# Altium schematic symbol library conn_terminalB.SchLib: 523 symbols (part 1 of 4)
Pins are listed as number, name and electrical type; pins without a type are passive.

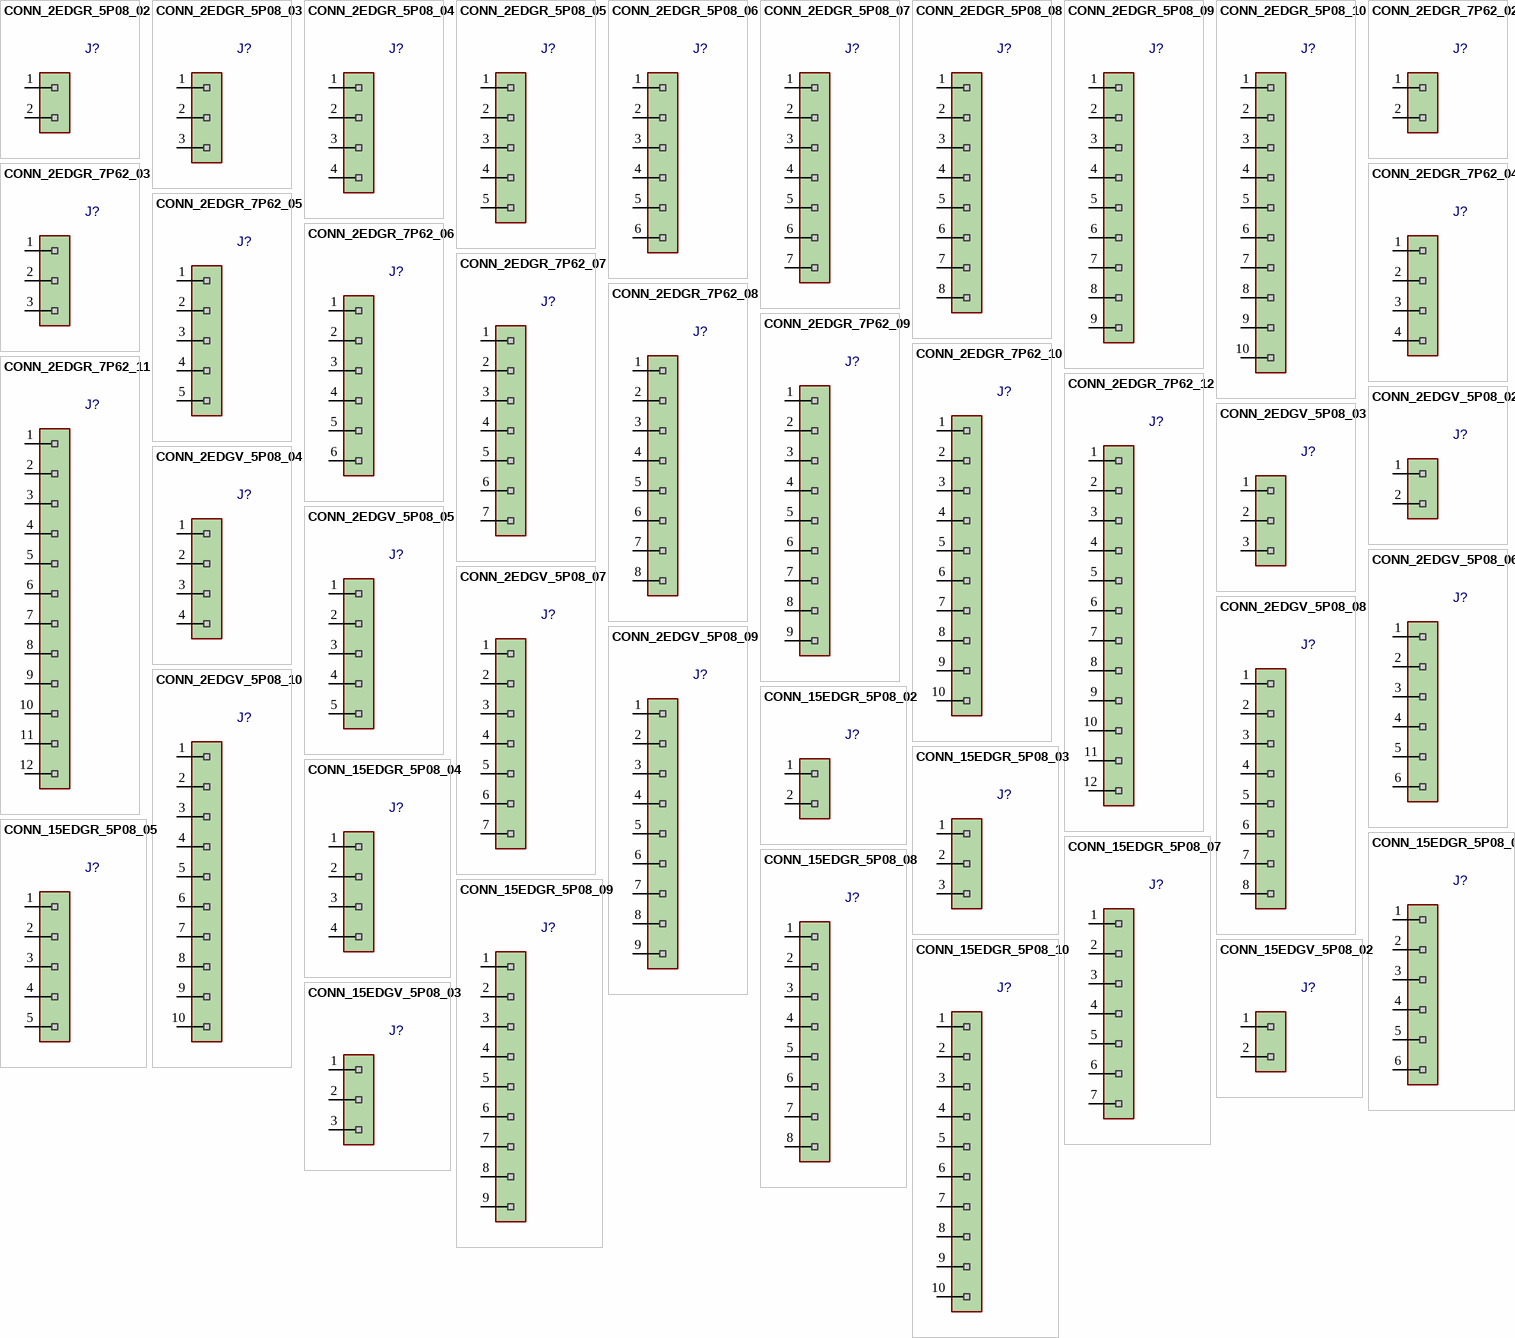
[diagram p0: symbols CONN_2EDGR_5P08_02 to CONN_15EDGV_5P08_03]

## CONN_2EDGR_5P08_02
designator J?, comment 2EDGR_5P08_02  (value not drawn)
Terminal Block Pluggable, Pitch 5.08mm, H 8.6mm, Horizental; MANF: DEGSON; MANF_P#: 2EDGR-5.0-02P, MSTB 2,5/ 2-G-5,08, mating 2EDGK; PARAM2: 300v, -40~105°C; PARAM: 15A; VALUE: 2EDGR_5P08_02; Mount Type: THT; Type: Conn.
footprint 2EDGR_5P08_02 (Terminal Plug, pitch 5.08mm, PHOENIX MSTB 2,5/ x-G-5,08)
footprint 2EDGR_5P08_02_ASSY (Terminal Plug, pitch 5.08mm, PHOENIX MSTB 2,5/ x-G-5,08)
pins: 1, 2

## CONN_2EDGR_5P08_03
designator J?, comment 2EDGR_5P08_03  (value not drawn)
Terminal Block Pluggable, Pitch 5.08mm, H 8.6mm, Horizental; MANF: DEGSON; MANF_P#: 2EDGR-5.0-03P, MSTB 2,5/ 3-G-5,08, mating 2EDGK; PARAM2: 300v, -40~105°C; PARAM: 15A; VALUE: 2EDGR_5P08_03; Mount Type: THT; Type: Conn.
footprint 2EDGR_5P08_03 (Terminal Plug, pitch 5.08mm, PHOENIX MSTB 2,5/ x-G-5,08)
footprint 2EDGR_5P08_03_ASSY (Terminal Plug, pitch 5.08mm, PHOENIX MSTB 2,5/ x-G-5,08)
pins: 1, 2, 3

## CONN_2EDGR_5P08_04
designator J?, comment 2EDGR_5P08_04  (value not drawn)
Terminal Block Pluggable, Pitch 5.08mm, H 8.6mm, Horizental; MANF: DEGSON; MANF_P#: 2EDGR-5.0-04P, MSTB 2,5/ 4-G-5,08, mating 2EDGK; PARAM2: 300v, -40~105°C; PARAM: 15A; VALUE: 2EDGR_5P08_04; Mount Type: THT; Type: Conn.
footprint 2EDGR_5P08_04 (Terminal Plug, pitch 5.08mm, PHOENIX MSTB 2,5/ x-G-5,08)
footprint 2EDGR_5P08_04_ASSY (Terminal Plug, pitch 5.08mm, PHOENIX MSTB 2,5/ x-G-5,08)
pins: 1, 2, 3, 4

## CONN_2EDGR_5P08_05
designator J?, comment 2EDGR_5P08_05  (value not drawn)
Terminal Block Pluggable, Pitch 5.08mm, H 8.6mm, Horizental; MANF: DEGSON; MANF_P#: 2EDGR-5.0-05P, MSTB 2,5/ 5-G-5,08, mating 2EDGK; PARAM2: 300v, -40~105°C; PARAM: 15A; VALUE: 2EDGR_5P08_05; Mount Type: THT; Type: Conn.
footprint 2EDGR_5P08_05 (Terminal Plug, pitch 5.08mm, PHOENIX MSTB 2,5/ x-G-5,08)
footprint 2EDGR_5P08_05_ASSY (Terminal Plug, pitch 5.08mm, PHOENIX MSTB 2,5/ x-G-5,08)
pins: 1, 2, 3, 4, 5

## CONN_2EDGR_5P08_06
designator J?, comment 2EDGR_5P08_06  (value not drawn)
Terminal Block Pluggable, Pitch 5.08mm, H 8.6mm, Horizental; MANF: DEGSON; MANF_P#: 2EDGR-5.0-06P, MSTB 2,5/ 6-G-5,08, mating 2EDGK; PARAM2: 300v, -40~105°C; PARAM: 15A; VALUE: 2EDGR_5P08_06; Mount Type: THT; Type: Conn.
footprint 2EDGR_5P08_06 (Terminal Plug, pitch 5.08mm, PHOENIX MSTB 2,5/ x-G-5,08)
footprint 2EDGR_5P08_06_ASSY (Terminal Plug, pitch 5.08mm, PHOENIX MSTB 2,5/ x-G-5,08)
pins: 1, 2, 3, 4, 5, 6

## CONN_2EDGR_5P08_07
designator J?, comment 2EDGR_5P08_07  (value not drawn)
Terminal Block Pluggable, Pitch 5.08mm, H 8.6mm, Horizental; MANF: DEGSON; MANF_P#: 2EDGR-5.0-07P, MSTB 2,5/ 7-G-5,08, mating 2EDGK; PARAM2: 300v, -40~105°C; PARAM: 15A; VALUE: 2EDGR_5P08_07; Mount Type: THT; Type: Conn.
footprint 2EDGR_5P08_07 (Terminal Plug, pitch 5.08mm, PHOENIX MSTB 2,5/ x-G-5,08)
footprint 2EDGR_5P08_07_ASSY (Terminal Plug, pitch 5.08mm, PHOENIX MSTB 2,5/ x-G-5,08)
pins: 1, 2, 3, 4, 5, 6, 7

## CONN_2EDGR_5P08_08
designator J?, comment 2EDGR_5P08_08  (value not drawn)
Terminal Block Pluggable, Pitch 5.08mm, H 8.6mm, Horizental; MANF: DEGSON; MANF_P#: 2EDGR-5.0-08P, MSTB 2,5/ 8-G-5,08, mating 2EDGK; PARAM2: 300v, -40~105°C; PARAM: 15A; VALUE: 2EDGR_5P08_08; Mount Type: THT; Type: Conn.
footprint 2EDGR_5P08_08 (Terminal Plug, pitch 5.08mm, PHOENIX MSTB 2,5/ x-G-5,08)
footprint 2EDGR_5P08_08_ASSY (Terminal Plug, pitch 5.08mm, PHOENIX MSTB 2,5/ x-G-5,08)
pins: 1, 2, 3, 4, 5, 6, 7, 8

## CONN_2EDGR_5P08_09
designator J?, comment 2EDGR_5P08_09  (value not drawn)
Terminal Block Pluggable, Pitch 5.08mm, H 8.6mm, Horizental; MANF: DEGSON; MANF_P#: 2EDGR-5.0-09P, MSTB 2,5/ 9-G-5,08, mating 2EDGK; PARAM2: 300v, -40~105°C; PARAM: 15A; VALUE: 2EDGR_5P08_09; Mount Type: THT; Type: Conn.
footprint 2EDGR_5P08_09 (Terminal Plug, pitch 5.08mm, PHOENIX MSTB 2,5/ x-G-5,08)
footprint 2EDGR_5P08_09_ASSY (Terminal Plug, pitch 5.08mm, PHOENIX MSTB 2,5/ x-G-5,08)
pins: 1, 2, 3, 4, 5, 6, 7, 8, 9

## CONN_2EDGR_5P08_10
designator J?, comment 2EDGR_5P08_10  (value not drawn)
Terminal Block Pluggable, Pitch 5.08mm, H 8.6mm, Horizental; MANF: DEGSON; MANF_P#: 2EDGR-5.0-10P, MSTB 2,5/ 10-G-5,08, mating 2EDGK; PARAM2: 300v, -40~105°C; PARAM: 15A; VALUE: 2EDGR_5P08_10; Mount Type: THT; Type: Conn.
footprint 2EDGR_5P08_10 (Terminal Plug, pitch 5.08mm, PHOENIX MSTB 2,5/ x-G-5,08)
footprint 2EDGR_5P08_10_ASSY (Terminal Plug, pitch 5.08mm, PHOENIX MSTB 2,5/ x-G-5,08)
pins: 1, 2, 3, 4, 5, 6, 7, 8, 9, 10

## CONN_2EDGR_7P62_02
designator J?, comment 2EDGR_7P62_02  (value not drawn)
Terminal Block Pluggable, Pitch 7.62mm, H 8.6mm; MANF: DEGSON; MANF_P#: 2EDGR-7.62-02P, GMSTB 2,5/ 2-G-7,62, mating 2EDGK; PARAM2: 300v, -40~105°C; PARAM: 15A; VALUE: 2EDGR_7P62_02; Mount Type: THT; Type: Conn.
footprint 2EDGR_7P62_02 (Terminal B Plug. , pitch 7.62mm, H 8.6mm, PHOENIX GMSTB 2,5/x-G-7,62)
footprint 2EDGR_7P62_02_ASSY (Terminal B Plug. , pitch 7.62mm, H 8.6mm, PHOENIX GMSTB 2,5/x-G-7,62)
pins: 1, 2

## CONN_2EDGR_7P62_03
designator J?, comment 2EDGR_7P62_03  (value not drawn)
Terminal Block Pluggable, Pitch 7.62mm, H 8.6mm; MANF: DEGSON; MANF_P#: 2EDGR-7.62-03P, GMSTB 2,5/ 3-G-7,62, mating 2EDGK; PARAM2: 300v, -40~105°C; PARAM: 15A; VALUE: 2EDGR_7P62_03; Mount Type: THT; Type: Conn.
footprint 2EDGR_7P62_03 (Terminal B Plug. , pitch 7.62mm, H 8.6mm, PHOENIX GMSTB 2,5/x-G-7,62)
footprint 2EDGR_7P62_03_ASSY (Terminal B Plug. , pitch 7.62mm, H 8.6mm, PHOENIX GMSTB 2,5/x-G-7,62)
pins: 1, 2, 3

## CONN_2EDGR_7P62_04
designator J?, comment 2EDGR_7P62_04  (value not drawn)
Terminal Block Pluggable, Pitch 7.62mm, H 8.6mm; MANF: DEGSON; MANF_P#: 2EDGR-7.62-04P, GMSTB 2,5/ 4-G-7,62, mating 2EDGK; PARAM2: 300v, -40~105°C; PARAM: 15A; VALUE: 2EDGR_7P62_04; Mount Type: THT; Type: Conn.
footprint 2EDGR_7P62_04 (Terminal B Plug. , pitch 7.62mm, H 8.6mm, PHOENIX GMSTB 2,5/x-G-7,62)
footprint 2EDGR_7P62_04_ASSY (Terminal B Plug. , pitch 7.62mm, H 8.6mm, PHOENIX GMSTB 2,5/x-G-7,62)
pins: 1, 2, 3, 4

## CONN_2EDGR_7P62_05
designator J?, comment 2EDGR_7P62_05  (value not drawn)
Terminal Block Pluggable, Pitch 7.62mm, H 8.6mm; MANF: DEGSON; MANF_P#: 2EDGR-7.62-05P, GMSTB 2,5/ 5-G-7,62, mating 2EDGK; PARAM2: 300v, -40~105°C; PARAM: 15A; VALUE: 2EDGR_7P62_05; Mount Type: THT; Type: Conn.
footprint 2EDGR_7P62_05 (Terminal B Plug. , pitch 7.62mm, H 8.6mm, PHOENIX GMSTB 2,5/x-G-7,62)
footprint 2EDGR_7P62_05_ASSY (Terminal B Plug. , pitch 7.62mm, H 8.6mm, PHOENIX GMSTB 2,5/x-G-7,62)
pins: 1, 2, 3, 4, 5

## CONN_2EDGR_7P62_06
designator J?, comment 2EDGR_7P62_06  (value not drawn)
Terminal Block Pluggable, Pitch 7.62mm, H 8.6mm; MANF: DEGSON; MANF_P#: 2EDGR-7.62-06P, GMSTB 2,5/ 6-G-7,62, mating 2EDGK; PARAM2: 300v, -40~105°C; PARAM: 15A; VALUE: 2EDGR_7P62_06; Mount Type: THT; Type: Conn.
footprint 2EDGR_7P62_06 (Terminal B Plug. , pitch 7.62mm, H 8.6mm, PHOENIX GMSTB 2,5/x-G-7,62)
footprint 2EDGR_7P62_06_ASSY (Terminal B Plug. , pitch 7.62mm, H 8.6mm, PHOENIX GMSTB 2,5/x-G-7,62)
pins: 1, 2, 3, 4, 5, 6

## CONN_2EDGR_7P62_07
designator J?, comment 2EDGR_7P62_07  (value not drawn)
Terminal Block Pluggable, Pitch 7.62mm, H 8.6mm; MANF: DEGSON; MANF_P#: 2EDGR-7.62-07P, GMSTB 2,5/ 7-G-7,62, mating 2EDGK; PARAM2: 300v, -40~105°C; PARAM: 15A; VALUE: 2EDGR_7P62_07; Mount Type: THT; Type: Conn.
footprint 2EDGR_7P62_07 (Terminal B Plug. , pitch 7.62mm, H 8.6mm, PHOENIX GMSTB 2,5/x-G-7,62)
footprint 2EDGR_7P62_07_ASSY (Terminal B Plug. , pitch 7.62mm, H 8.6mm, PHOENIX GMSTB 2,5/x-G-7,62)
pins: 1, 2, 3, 4, 5, 6, 7

## CONN_2EDGR_7P62_08
designator J?, comment 2EDGR_7P62_08  (value not drawn)
Terminal Block Pluggable, Pitch 7.62mm, H 8.6mm; MANF: DEGSON; MANF_P#: 2EDGR-7.62-08P, GMSTB 2,5/ 8-G-7,62, mating 2EDGK; PARAM2: 300v, -40~105°C; PARAM: 15A; VALUE: 2EDGR_7P62_08; Mount Type: THT; Type: Conn.
footprint 2EDGR_7P62_08 (Terminal B Plug. , pitch 7.62mm, H 8.6mm, PHOENIX GMSTB 2,5/x-G-7,62)
footprint 2EDGR_7P62_08_ASSY (Terminal B Plug. , pitch 7.62mm, H 8.6mm, PHOENIX GMSTB 2,5/x-G-7,62)
pins: 1, 2, 3, 4, 5, 6, 7, 8

## CONN_2EDGR_7P62_09
designator J?, comment 2EDGR_7P62_09  (value not drawn)
Terminal Block Pluggable, Pitch 7.62mm, H 8.6mm; MANF: DEGSON; MANF_P#: 2EDGR-7.62-09P, GMSTB 2,5/ 9-G-7,62, mating 2EDGK; PARAM2: 300v, -40~105°C; PARAM: 15A; VALUE: 2EDGR_7P62_09; Mount Type: THT; Type: Conn.
footprint 2EDGR_7P62_09 (Terminal B Plug. , pitch 7.62mm, H 8.6mm, PHOENIX GMSTB 2,5/x-G-7,62)
footprint 2EDGR_7P62_09_ASSY (Terminal B Plug. , pitch 7.62mm, H 8.6mm, PHOENIX GMSTB 2,5/x-G-7,62)
pins: 1, 2, 3, 4, 5, 6, 7, 8, 9

## CONN_2EDGR_7P62_10
designator J?, comment 2EDGR_7P62_10  (value not drawn)
Terminal Block Pluggable, Pitch 7.62mm, H 8.6mm; MANF: DEGSON; MANF_P#: 2EDGR-7.62-10P, GMSTB 2,5/ 10-G-7,62, mating 2EDGK; PARAM2: 300v, -40~105°C; PARAM: 15A; VALUE: 2EDGR_7P62_10; Mount Type: THT; Type: Conn.
footprint 2EDGR_7P62_10 (Terminal B Plug. , pitch 7.62mm, H 8.6mm, PHOENIX GMSTB 2,5/x-G-7,62)
footprint 2EDGR_7P62_10_ASSY
pins: 1, 2, 3, 4, 5, 6, 7, 8, 9, 10

## CONN_2EDGR_7P62_11
designator J?, comment 2EDGR_7P62_11  (value not drawn)
Terminal Block Pluggable, Pitch 7.62mm, H 8.6mm; MANF: DEGSON; MANF_P#: 2EDGR-7.62-11P, GMSTB 2,5/ 11-G-7,62, mating 2EDGK; PARAM2: 300v, -40~105°C; PARAM: 15A; VALUE: 2EDGR_7P62_11; Mount Type: THT; Type: Conn.
footprint 2EDGR_7P62_11 (Terminal B Plug. , pitch 7.62mm, H 8.6mm, PHOENIX GMSTB 2,5/x-G-7,62)
footprint 2EDGR_7P62_11_ASSY (Terminal B Plug. , pitch 7.62mm, H 8.6mm, PHOENIX GMSTB 2,5/x-G-7,62)
pins: 1, 2, 3, 4, 5, 6, 7, 8, 9, 10, 11, 12

## CONN_2EDGR_7P62_12
designator J?, comment 2EDGR_7P62_12  (value not drawn)
Terminal Block Pluggable, Pitch 7.62mm, H 8.6mm; MANF: DEGSON; MANF_P#: 2EDGR-7.62-12P, GMSTB 2,5/ 12-G-7,62, mating 2EDGK; PARAM2: 300v, -40~105°C; PARAM: 15A; VALUE: 2EDGR_7P62_12; Mount Type: THT; Type: Conn.
footprint 2EDGR_7P62_12 (Terminal B Plug. , pitch 7.62mm, H 8.6mm, PHOENIX GMSTB 2,5/x-G-7,62)
footprint 2EDGR_7P62_12_ASSY (Terminal B Plug. , pitch 7.62mm, H 8.6mm, PHOENIX GMSTB 2,5/x-G-7,62)
pins: 1, 2, 3, 4, 5, 6, 7, 8, 9, 10, 11, 12

## CONN_2EDGV_5P08_02
designator J?, comment 2EDGV_5P08_02  (value not drawn)
Terminal Block Pluggable, Pitch 5.08mm, H 12.2mm, Vertical; MANF: DEGSON; MANF_P#: 2EDGV-5.0-02P, MSTBV 2,5/ 2-G-5,08, mating 2EDGK; PARAM2: 300v, -40~105°C; PARAM: 15A; VALUE: 2EDGV_5P08_02; Mount Type: THT; Type: Conn.
footprint 2EDGV_5P08_02 (Terminal Plug, pitch 5.08mm, PHOENIX MSTBV 2,5/ x-G-5,08)
pins: 1, 2

## CONN_2EDGV_5P08_03
designator J?, comment 2EDGV_5P08_03  (value not drawn)
Terminal Block Pluggable, Pitch 5.08mm, H 12.2mm, Vertical; MANF: DEGSON; MANF_P#: 2EDGV-5.0-03P, MSTBV 2,5/ 3-G-5,08, mating 2EDGK; PARAM2: 300v, -40~105°C; PARAM: 15A; VALUE: 2EDGV_5P08_03; Mount Type: THT; Type: Conn.
footprint 2EDGV_5P08_03 (Terminal Plug, pitch 5.08mm, PHOENIX MSTBV 2,5/ x-G-5,08)
pins: 1, 2, 3

## CONN_2EDGV_5P08_04
designator J?, comment 2EDGV_5P08_04  (value not drawn)
Terminal Block Pluggable, Pitch 5.08mm, H 12.2mm, Vertical; MANF: DEGSON; MANF_P#: 2EDGV-5.0-04P, MSTBV 2,5/ 4-G-5,08, mating 2EDGK; PARAM2: 300v, -40~105°C; PARAM: 15A; VALUE: 2EDGV_5P08_04; Mount Type: THT; Type: Conn.
footprint 2EDGV_5P08_04 (Terminal Plug, pitch 5.08mm, PHOENIX MSTBV 2,5/ x-G-5,08)
pins: 1, 2, 3, 4

## CONN_2EDGV_5P08_05
designator J?, comment 2EDGV_5P08_05  (value not drawn)
Terminal Block Pluggable, Pitch 5.08mm, H 12.2mm, Vertical; MANF: DEGSON; MANF_P#: 2EDGV-5.0-05P, MSTBV 2,5/ 5-G-5,08, mating 2EDGK; PARAM2: 300v, -40~105°C; PARAM: 15A; VALUE: 2EDGV_5P08_05; Mount Type: THT; Type: Conn.
footprint 2EDGV_5P08_05 (Terminal Plug, pitch 5.08mm, PHOENIX MSTBV 2,5/ x-G-5,08)
pins: 1, 2, 3, 4, 5

## CONN_2EDGV_5P08_06
designator J?, comment 2EDGV_5P08_06  (value not drawn)
Terminal Block Pluggable, Pitch 5.08mm, H 12.2mm, Vertical; MANF: DEGSON; MANF_P#: 2EDGV-5.0-06P, MSTBV 2,5/ 6-G-5,08, mating 2EDGK; PARAM2: 300v, -40~105°C; PARAM: 15A; VALUE: 2EDGV_5P08_06; Mount Type: THT; Type: Conn.
footprint 2EDGV_5P08_06 (Terminal Plug, pitch 5.08mm, PHOENIX MSTBV 2,5/ x-G-5,08)
pins: 1, 2, 3, 4, 5, 6

## CONN_2EDGV_5P08_07
designator J?, comment 2EDGV_5P08_07  (value not drawn)
Terminal Block Pluggable, Pitch 5.08mm, H 12.2mm, Vertical; MANF: DEGSON; MANF_P#: 2EDGV-5.0-07P, MSTBV 2,5/ 7-G-5,08, mating 2EDGK; PARAM2: 300v, -40~105°C; PARAM: 15A; VALUE: 2EDGV_5P08_07; Mount Type: THT; Type: Conn.
footprint 2EDGV_5P08_07 (Terminal Plug, pitch 5.08mm, PHOENIX MSTBV 2,5/ x-G-5,08)
pins: 1, 2, 3, 4, 5, 6, 7

## CONN_2EDGV_5P08_08
designator J?, comment 2EDGV_5P08_08  (value not drawn)
Terminal Block Pluggable, Pitch 5.08mm, H 12.2mm, Vertical; MANF: DEGSON; MANF_P#: 2EDGV-5.0-08P, MSTBV 2,5/ 8-G-5,08, mating 2EDGK; PARAM2: 300v, -40~105°C; PARAM: 15A; VALUE: 2EDGV_5P08_08; Mount Type: THT; Type: Conn.
footprint 2EDGV_5P08_08 (Terminal Plug, pitch 5.08mm, PHOENIX MSTBV 2,5/ x-G-5,08)
pins: 1, 2, 3, 4, 5, 6, 7, 8

## CONN_2EDGV_5P08_09
designator J?, comment 2EDGV_5P08_09  (value not drawn)
Terminal Block Pluggable, Pitch 5.08mm, H 12.2mm, Vertical; MANF: DEGSON; MANF_P#: 2EDGV-5.0-09P, MSTBV 2,5/ 9-G-5,08, mating 2EDGK; PARAM2: 300v, -40~105°C; PARAM: 15A; VALUE: 2EDGV_5P08_09; Mount Type: THT; Type: Conn.
footprint 2EDGV_5P08_09 (Terminal Plug, pitch 5.08mm, PHOENIX MSTBV 2,5/ x-G-5,08)
pins: 1, 2, 3, 4, 5, 6, 7, 8, 9

## CONN_2EDGV_5P08_10
designator J?, comment 2EDGV_5P08_10  (value not drawn)
Terminal Block Pluggable, Pitch 5.08mm, H 12.2mm, Vertical; MANF: DEGSON; MANF_P#: 2EDGV-5.0-10P, MSTBV 2,5/ 10-G-5,08, mating 2EDGK; PARAM2: 300v, -40~105°C; PARAM: 15A; VALUE: 2EDGV_5P08_10; Mount Type: THT; Type: Conn.
footprint 2EDGV_5P08_10 (Terminal Plug, pitch 5.08mm, PHOENIX MSTBV 2,5/ x-G-5,08)
pins: 1, 2, 3, 4, 5, 6, 7, 8, 9, 10

## CONN_15EDGR_5P08_02
designator J?, comment 15EDGR_5P08_02  (value not drawn)
Terminal Block Pluggable, Pitch 5.08mm, H 7.2mm, Horizental; MANF: DEGSON; MANF_P#: 15EDGRC-5.08-02P, MC 1,5/ 2-G-5,08, mating 15EDGK-5.08; PARAM2: 300v, -40~105°C; PARAM: 8A; VALUE: 15EDGR_5P08_02; Mount Type: THT; Type: Conn.
footprint 15EDGR_5P08_02 (Terminal Plug, pitch 5.08mm, PHOENIX MC 1,5/ x-G-5,08)
pins: 1, 2

## CONN_15EDGR_5P08_03
designator J?, comment 15EDGR_5P08_03  (value not drawn)
Terminal Block Pluggable, Pitch 5.08mm, H 7.2mm, Horizental; MANF: DEGSON; MANF_P#: 15EDGRC-5.08-03P, MC 1,5/ 3-G-5,08, mating 15EDGK-5.08; PARAM2: 300v, -40~105°C; PARAM: 8A; VALUE: 15EDGR_5P08_03; Mount Type: THT; Type: Conn.
footprint 15EDGR_5P08_03 (Terminal Plug, pitch 5.08mm, PHOENIX MC 1,5/ x-G-5,08)
pins: 1, 2, 3

## CONN_15EDGR_5P08_04
designator J?, comment 15EDGR_5P08_04  (value not drawn)
Terminal Block Pluggable, Pitch 5.08mm, H 7.2mm, Horizental; MANF: DEGSON; MANF_P#: 15EDGRC-5.08-04P, MC 1,5/ 4-G-5,08, mating 15EDGK-5.08; PARAM2: 300v, -40~105°C; PARAM: 8A; VALUE: 15EDGR_5P08_04; Mount Type: THT; Type: Conn.
footprint 15EDGR_5P08_04 (Terminal Plug, pitch 5.08mm, PHOENIX MC 1,5/ x-G-5,08)
pins: 1, 2, 3, 4

## CONN_15EDGR_5P08_05
designator J?, comment 15EDGR_5P08_05  (value not drawn)
Terminal Block Pluggable, Pitch 5.08mm, H 7.2mm, Horizental; MANF: DEGSON; MANF_P#: 15EDGRC-5.08-05P, MC 1,5/ 5-G-5,08, mating 15EDGK-5.08; PARAM2: 300v, -40~105°C; PARAM: 8A; VALUE: 15EDGR_5P08_05; Mount Type: THT; Type: Conn.
footprint 15EDGR_5P08_05 (Terminal Plug, pitch 5.08mm, PHOENIX MC 1,5/ x-G-5,08)
pins: 1, 2, 3, 4, 5

## CONN_15EDGR_5P08_06
designator J?, comment 15EDGR_5P08_06  (value not drawn)
Terminal Block Pluggable, Pitch 5.08mm, H 7.2mm, Horizental; MANF: DEGSON; MANF_P#: 15EDGRC-5.08-06P, MC 1,5/ 6-G-5,08, mating 15EDGK-5.08; PARAM2: 300v, -40~105°C; PARAM: 8A; VALUE: 15EDGR_5P08_06; Mount Type: THT; Type: Conn.
footprint 15EDGR_5P08_06 (Terminal Plug, pitch 5.08mm, PHOENIX MC 1,5/ x-G-5,08)
pins: 1, 2, 3, 4, 5, 6

## CONN_15EDGR_5P08_07
designator J?, comment 15EDGR_5P08_07  (value not drawn)
Terminal Block Pluggable, Pitch 5.08mm, H 7.2mm, Horizental; MANF: DEGSON; MANF_P#: 15EDGRC-5.08-07P, MC 1,5/ 7-G-5,08, mating 15EDGK-5.08; PARAM2: 300v, -40~105°C; PARAM: 8A; VALUE: 15EDGR_5P08_07; Mount Type: THT; Type: Conn.
footprint 15EDGR_5P08_07 (Terminal Plug, pitch 5.08mm, PHOENIX MC 1,5/ x-G-5,08)
pins: 1, 2, 3, 4, 5, 6, 7

## CONN_15EDGR_5P08_08
designator J?, comment 15EDGR_5P08_08  (value not drawn)
Terminal Block Pluggable, Pitch 5.08mm, H 7.2mm, Horizental; MANF: DEGSON; MANF_P#: 15EDGRC-5.08-08P, MC 1,5/ 8-G-5,08, mating 15EDGK-5.08; PARAM2: 300v, -40~105°C; PARAM: 8A; VALUE: 15EDGR_5P08_08; Mount Type: THT; Type: Conn.
footprint 15EDGR_5P08_08 (Terminal Plug, pitch 5.08mm, PHOENIX MC 1,5/ x-G-5,08)
pins: 1, 2, 3, 4, 5, 6, 7, 8

## CONN_15EDGR_5P08_09
designator J?, comment 15EDGR_5P08_09  (value not drawn)
Terminal Block Pluggable, Pitch 5.08mm, H 7.2mm, Horizental; MANF: DEGSON; MANF_P#: 15EDGRC-5.08-09P, MC 1,5/ 9-G-5,08, mating 15EDGK-5.08; PARAM2: 300v, -40~105°C; PARAM: 8A; VALUE: 15EDGR_5P08_09; Mount Type: THT; Type: Conn.
footprint 15EDGR_5P08_09 (Terminal Plug, pitch 5.08mm, PHOENIX MC 1,5/ x-G-5,08)
pins: 1, 2, 3, 4, 5, 6, 7, 8, 9

## CONN_15EDGR_5P08_10
designator J?, comment 15EDGR_5P08_10  (value not drawn)
Terminal Block Pluggable, Pitch 5.08mm, H 7.2mm, Horizental; MANF: DEGSON; MANF_P#: 15EDGRC-5.08-10P, MC 1,5/ 10-G-5,08, mating 15EDGK-5.08; PARAM2: 300v, -40~105°C; PARAM: 8A; VALUE: 15EDGR_5P08_10; Mount Type: THT; Type: Conn.
footprint 15EDGR_5P08_10 (Terminal Plug, pitch 5.08mm, PHOENIX MC 1,5/ x-G-5,08)
pins: 1, 2, 3, 4, 5, 6, 7, 8, 9, 10

## CONN_15EDGV_5P08_02
designator J?, comment 15EDGV_5P08_02  (value not drawn)
Terminal Block Pluggable, Pitch 5.08mm, H 9.2mm, Vertical; MANF: DEGSON; MANF_P#: 15EDGVC-5.08-02P, MCV 1,5/ 2-G-5,08, mating 15EDGK-5.08; PARAM2: 300v, -40~105°C; PARAM: 8A; VALUE: 15EDGV_5P08_02; Mount Type: THT; Type: Conn.
footprint 15EDGV_5P08_02 (Terminal Plug, pitch 5.08mm, PHOENIX MCV 1,5/ x-G-5,08)
pins: 1, 2

## CONN_15EDGV_5P08_03
designator J?, comment 15EDGV_5P08_03  (value not drawn)
Terminal Block Pluggable, Pitch 5.08mm, H 9.2mm, Vertical; MANF: DEGSON; MANF_P#: 15EDGVC-5.08-03P, MCV 1,5/ 3-G-5,08, mating 15EDGK-5.08; PARAM2: 300v, -40~105°C; PARAM: 8A; VALUE: 15EDGV_5P08_03; Mount Type: THT; Type: Conn.
footprint 15EDGV_5P08_03 (Terminal Plug, pitch 5.08mm, PHOENIX MCV 1,5/ x-G-5,08)
pins: 1, 2, 3

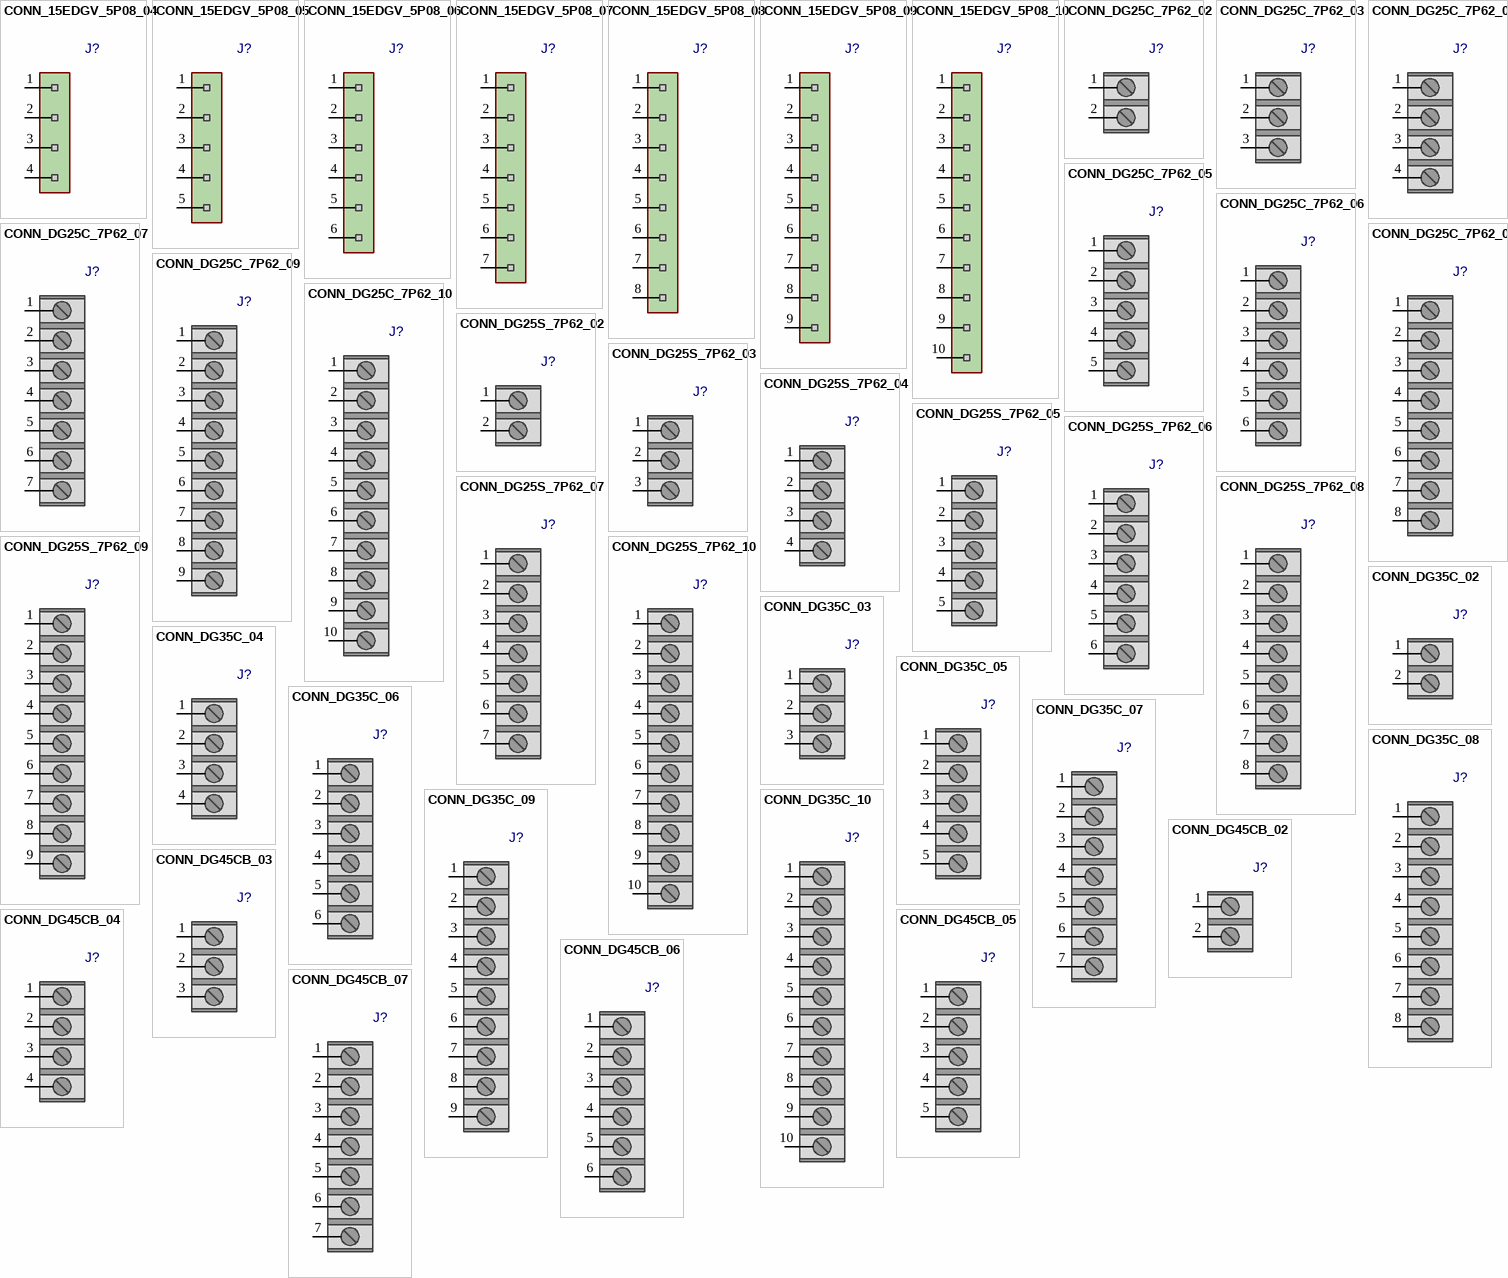
[diagram p1: symbols CONN_15EDGV_5P08_04 to CONN_DG45CB_07]

## CONN_15EDGV_5P08_04
designator J?, comment 15EDGV_5P08_04  (value not drawn)
Terminal Block Pluggable, Pitch 5.08mm, H 9.2mm, Vertical; MANF: DEGSON; MANF_P#: 15EDGVC-5.08-04P, MCV 1,5/ 4-G-5,08, mating 15EDGK-5.08; PARAM2: 300v, -40~105°C; PARAM: 8A; VALUE: 15EDGV_5P08_04; Mount Type: THT; Type: Conn.
footprint 15EDGV_5P08_04 (Terminal Plug, pitch 5.08mm, PHOENIX MCV 1,5/ x-G-5,08)
pins: 1, 2, 3, 4

## CONN_15EDGV_5P08_05
designator J?, comment 15EDGV_5P08_05  (value not drawn)
Terminal Block Pluggable, Pitch 5.08mm, H 9.2mm, Vertical; MANF: DEGSON; MANF_P#: 15EDGVC-5.08-05P, MCV 1,5/ 5-G-5,08, mating 15EDGK-5.08; PARAM2: 300v, -40~105°C; PARAM: 8A; VALUE: 15EDGV_5P08_05; Mount Type: THT; Type: Conn.
footprint 15EDGV_5P08_05 (Terminal Plug, pitch 5.08mm, PHOENIX MCV 1,5/ x-G-5,08)
pins: 1, 2, 3, 4, 5

## CONN_15EDGV_5P08_06
designator J?, comment 15EDGV_5P08_06  (value not drawn)
Terminal Block Pluggable, Pitch 5.08mm, H 9.2mm, Vertical; MANF: DEGSON; MANF_P#: 15EDGVC-5.08-06P, MCV 1,5/ 6-G-5,08, mating 15EDGK-5.08; PARAM2: 300v, -40~105°C; PARAM: 8A; VALUE: 15EDGV_5P08_06; Mount Type: THT; Type: Conn.
footprint 15EDGV_5P08_06 (Terminal Plug, pitch 5.08mm, PHOENIX MCV 1,5/ x-G-5,08)
pins: 1, 2, 3, 4, 5, 6

## CONN_15EDGV_5P08_07
designator J?, comment 15EDGV_5P08_07  (value not drawn)
Terminal Block Pluggable, Pitch 5.08mm, H 9.2mm, Vertical; MANF: DEGSON; MANF_P#: 15EDGVC-5.08-07P, MCV 1,5/ 7-G-5,08, mating 15EDGK-5.08; PARAM2: 300v, -40~105°C; PARAM: 8A; VALUE: 15EDGV_5P08_07; Mount Type: THT; Type: Conn.
footprint 15EDGV_5P08_07 (Terminal Plug, pitch 5.08mm, PHOENIX MCV 1,5/ x-G-5,08)
pins: 1, 2, 3, 4, 5, 6, 7

## CONN_15EDGV_5P08_08
designator J?, comment 15EDGV_5P08_08  (value not drawn)
Terminal Block Pluggable, Pitch 5.08mm, H 9.2mm, Vertical; MANF: DEGSON; MANF_P#: 15EDGVC-5.08-08P, MCV 1,5/ 8-G-5,08, mating 15EDGK-5.08; PARAM2: 300v, -40~105°C; PARAM: 8A; VALUE: 15EDGV_5P08_08; Mount Type: THT; Type: Conn.
footprint 15EDGV_5P08_08 (Terminal Plug, pitch 5.08mm, PHOENIX MCV 1,5/ x-G-5,08)
pins: 1, 2, 3, 4, 5, 6, 7, 8

## CONN_15EDGV_5P08_09
designator J?, comment 15EDGV_5P08_09  (value not drawn)
Terminal Block Pluggable, Pitch 5.08mm, H 9.2mm, Vertical; MANF: DEGSON; MANF_P#: 15EDGVC-5.08-09P, MCV 1,5/ 9-G-5,08, mating 15EDGK-5.08; PARAM2: 300v, -40~105°C; PARAM: 8A; VALUE: 15EDGV_5P08_09; Mount Type: THT; Type: Conn.
footprint 15EDGV_5P08_09 (Terminal Plug, pitch 5.08mm, PHOENIX MCV 1,5/ x-G-5,08)
pins: 1, 2, 3, 4, 5, 6, 7, 8, 9

## CONN_15EDGV_5P08_10
designator J?, comment 15EDGV_5P08_10  (value not drawn)
Terminal Block Pluggable, Pitch 5.08mm, H 9.2mm, Vertical; MANF: DEGSON; MANF_P#: 15EDGVC-5.08-10P, MCV 1,5/ 10-G-5,08, mating 15EDGK-5.08; PARAM2: 300v, -40~105°C; PARAM: 8A; VALUE: 15EDGV_5P08_10; Mount Type: THT; Type: Conn.
footprint 15EDGV_5P08_10 (Terminal Plug, pitch 5.08mm, PHOENIX MCV 1,5/ x-G-5,08)
pins: 1, 2, 3, 4, 5, 6, 7, 8, 9, 10

## CONN_DG25C_7P62_02
designator J?, comment DG25C_7P62_02  (value not drawn)
Terminal Block Barrier, Pitch 7.62mm, H 14.8mm; MANF: DEGSON; MANF_P#: DG25C-7.62-02P, KF25C-7.62-2P; PARAM2: 300v, -40~105°C; PARAM: 15A; VALUE: DG25C_7P62_02; Mount Type: THT; Type: Conn.
footprint DG25C_7P62_02 (Terminal Screw, pitch 7.62mm, H 14.8mm, DG25C-7.62-xxP)
pins: 1, 2

## CONN_DG25C_7P62_03
designator J?, comment DG25C_7P62_03  (value not drawn)
Terminal Block Barrier, Pitch 7.62mm, H 14.8mm; MANF: DEGSON; MANF_P#: DG25C-7.62-03P, KF25C-7.62-3P; PARAM2: 300v, -40~105°C; PARAM: 15A; VALUE: DG25C_7P62_03; Mount Type: THT; Type: Conn.
footprint DG25C_7P62_03 (Terminal Screw, pitch 7.62mm, H 14.8mm, DG25C-7.62-xxP)
pins: 1, 2, 3

## CONN_DG25C_7P62_04
designator J?, comment DG25C_7P62_04  (value not drawn)
Terminal Block Barrier, Pitch 7.62mm, H 14.8mm; MANF: DEGSON; MANF_P#: DG25C-7.62-04P, KF25C-7.62-4P; PARAM2: 300v, -40~105°C; PARAM: 15A; VALUE: DG25C_7P62_04; Mount Type: THT; Type: Conn.
footprint DG25C_7P62_04 (Terminal Screw, pitch 7.62mm, H 14.8mm, DG25C-7.62-xxP)
pins: 1, 2, 3, 4

## CONN_DG25C_7P62_05
designator J?, comment DG25C_7P62_05  (value not drawn)
Terminal Block Barrier, Pitch 7.62mm, H 14.8mm; MANF: DEGSON; MANF_P#: DG25C-7.62-05P, KF25C-7.62-5P; PARAM2: 300v, -40~105°C; PARAM: 15A; VALUE: DG25C_7P62_05; Mount Type: THT; Type: Conn.
footprint DG25C_7P62_05 (Terminal Screw, pitch 7.62mm, H 14.8mm, DG25C-7.62-xxP)
pins: 1, 2, 3, 4, 5

## CONN_DG25C_7P62_06
designator J?, comment DG25C_7P62_06  (value not drawn)
Terminal Block Barrier, Pitch 7.62mm, H 14.8mm; MANF: DEGSON; MANF_P#: DG25C-7.62-06P, KF25C-7.62-6P; PARAM2: 300v, -40~105°C; PARAM: 15A; VALUE: DG25C_7P62_06; Mount Type: THT; Type: Conn.
footprint DG25C_7P62_06 (Terminal Screw, pitch 7.62mm, H 14.8mm, DG25C-7.62-xxP)
pins: 1, 2, 3, 4, 5, 6

## CONN_DG25C_7P62_07
designator J?, comment DG25C_7P62_07  (value not drawn)
Terminal Block Barrier, Pitch 7.62mm, H 14.8mm; MANF: DEGSON; MANF_P#: DG25C-7.62-07P, KF25C-7.62-7P; PARAM2: 300v, -40~105°C; PARAM: 15A; VALUE: DG25C_7P62_07; Mount Type: THT; Type: Conn.
footprint DG25C_7P62_07 (Terminal Screw, pitch 7.62mm, H 14.8mm, DG25C-7.62-xxP)
pins: 1, 2, 3, 4, 5, 6, 7

## CONN_DG25C_7P62_08
designator J?, comment DG25C_7P62_08  (value not drawn)
Terminal Block Barrier, Pitch 7.62mm, H 14.8mm; MANF: DEGSON; MANF_P#: DG25C-7.62-08P, KF25C-7.62-8P; PARAM2: 300v, -40~105°C; PARAM: 15A; VALUE: DG25C_7P62_08; Mount Type: THT; Type: Conn.
footprint DG25C_7P62_08 (Terminal Screw, pitch 7.62mm, H 14.8mm, DG25C-7.62-xxP)
pins: 1, 2, 3, 4, 5, 6, 7, 8

## CONN_DG25C_7P62_09
designator J?, comment DG25C_7P62_09  (value not drawn)
Terminal Block Barrier, Pitch 7.62mm, H 14.8mm; MANF: DEGSON; MANF_P#: DG25C-7.62-09P, KF25C-7.62-9P; PARAM2: 300v, -40~105°C; PARAM: 15A; VALUE: DG25C_7P62_09; Mount Type: THT; Type: Conn.
footprint DG25C_7P62_09 (Terminal Screw, pitch 7.62mm, H 14.8mm, DG25C-7.62-xxP)
pins: 1, 2, 3, 4, 5, 6, 7, 8, 9

## CONN_DG25C_7P62_10
designator J?, comment DG25C_7P62_10  (value not drawn)
Terminal Block Barrier, Pitch 7.62mm, H 14.8mm; MANF: DEGSON; MANF_P#: DG25C-7.62-10P, KF25C-7.62-10P; PARAM2: 300v, -40~105°C; PARAM: 15A; VALUE: DG25C_7P62_10; Mount Type: THT; Type: Conn.
footprint DG25C_7P62_10 (Terminal Screw, pitch 7.62mm, H 14.8mm, DG25C-7.62-xxP)
pins: 1, 2, 3, 4, 5, 6, 7, 8, 9, 10

## CONN_DG25S_7P62_02
designator J?, comment DG25S_7P62_02  (value not drawn)
Terminal Block Barrier, Pitch 7.62mm, H 14.8mm, Sided pin; MANF: DEGSON; MANF_P#: DG25S-7.62-02P, KF25S-7.62-2P; PARAM2: 300v, -40~105°C; PARAM: 15A; VALUE: DG25S_7P62_02; Mount Type: THT; Type: Conn.
footprint DG25S_7P62_02 (Terminal Screw, pitch 7.62mm, H 14.8mm, DG25C-7.62-xxP)
pins: 1, 2

## CONN_DG25S_7P62_03
designator J?, comment DG25S_7P62_03  (value not drawn)
Terminal Block Barrier, Pitch 7.62mm, H 14.8mm, Sided pin; MANF: DEGSON; MANF_P#: DG25S-7.62-03P, KF25S-7.62-3P; PARAM2: 300v, -40~105°C; PARAM: 15A; VALUE: DG25S_7P62_03; Mount Type: THT; Type: Conn.
footprint DG25S_7P62_03 (Terminal Screw, pitch 7.62mm, H 14.8mm, DG25C-7.62-xxP)
pins: 1, 2, 3

## CONN_DG25S_7P62_04
designator J?, comment DG25S_7P62_04  (value not drawn)
Terminal Block Barrier, Pitch 7.62mm, H 14.8mm, Sided pin; MANF: DEGSON; MANF_P#: DG25S-7.62-04P, KF25S-7.62-4P; PARAM2: 300v, -40~105°C; PARAM: 15A; VALUE: DG25S_7P62_04; Mount Type: THT; Type: Conn.
footprint DG25S_7P62_04 (Terminal Screw, pitch 7.62mm, H 14.8mm, DG25C-7.62-xxP)
pins: 1, 2, 3, 4

## CONN_DG25S_7P62_05
designator J?, comment DG25S_7P62_05  (value not drawn)
Terminal Block Barrier, Pitch 7.62mm, H 14.8mm, Sided pin; MANF: DEGSON; MANF_P#: DG25S-7.62-05P, KF25S-7.62-5P; PARAM2: 300v, -40~105°C; PARAM: 15A; VALUE: DG25S_7P62_05; Mount Type: THT; Type: Conn.
footprint DG25S_7P62_05 (Terminal Screw, pitch 7.62mm, H 14.8mm, DG25C-7.62-xxP)
pins: 1, 2, 3, 4, 5

## CONN_DG25S_7P62_06
designator J?, comment DG25S_7P62_06  (value not drawn)
Terminal Block Barrier, Pitch 7.62mm, H 14.8mm, Sided pin; MANF: DEGSON; MANF_P#: DG25S-7.62-06P, KF25S-7.62-6P; PARAM2: 300v, -40~105°C; PARAM: 15A; VALUE: DG25S_7P62_06; Mount Type: THT; Type: Conn.
footprint DG25S_7P62_06 (Terminal Screw, pitch 7.62mm, H 14.8mm, DG25C-7.62-xxP)
pins: 1, 2, 3, 4, 5, 6

## CONN_DG25S_7P62_07
designator J?, comment DG25S_7P62_07  (value not drawn)
Terminal Block Barrier, Pitch 7.62mm, H 14.8mm, Sided pin; MANF: DEGSON; MANF_P#: DG25S-7.62-07P, KF25S-7.62-7P; PARAM2: 300v, -40~105°C; PARAM: 15A; VALUE: DG25S_7P62_07; Mount Type: THT; Type: Conn.
footprint DG25S_7P62_07 (Terminal Screw, pitch 7.62mm, H 14.8mm, DG25C-7.62-xxP)
pins: 1, 2, 3, 4, 5, 6, 7

## CONN_DG25S_7P62_08
designator J?, comment DG25S_7P62_08  (value not drawn)
Terminal Block Barrier, Pitch 7.62mm, H 14.8mm, Sided pin; MANF: DEGSON; MANF_P#: DG25S-7.62-08P, KF25S-7.62-8P; PARAM2: 300v, -40~105°C; PARAM: 15A; VALUE: DG25S_7P62_08; Mount Type: THT; Type: Conn.
footprint DG25S_7P62_08 (Terminal Screw, pitch 7.62mm, H 14.8mm, DG25C-7.62-xxP)
pins: 1, 2, 3, 4, 5, 6, 7, 8

## CONN_DG25S_7P62_09
designator J?, comment DG25S_7P62_09  (value not drawn)
Terminal Block Barrier, Pitch 7.62mm, H 14.8mm, Sided pin; MANF: DEGSON; MANF_P#: DG25S-7.62-09P, KF25S-7.62-9P; PARAM2: 300v, -40~105°C; PARAM: 15A; VALUE: DG25S_7P62_09; Mount Type: THT; Type: Conn.
footprint DG25S_7P62_09 (Terminal Screw, pitch 7.62mm, H 14.8mm, DG25C-7.62-xxP)
pins: 1, 2, 3, 4, 5, 6, 7, 8, 9

## CONN_DG25S_7P62_10
designator J?, comment DG25S_7P62_10  (value not drawn)
Terminal Block Barrier, Pitch 7.62mm, H 14.8mm, Sided pin; MANF: DEGSON; MANF_P#: DG25S-7.62-10P, KF25S-7.62-10P; PARAM2: 300v, -40~105°C; PARAM: 15A; VALUE: DG25S_7P62_10; Mount Type: THT; Type: Conn.
footprint DG25S_7P62_10 (Terminal Screw, pitch 7.62mm, H 14.8mm, DG25C-7.62-xxP)
pins: 1, 2, 3, 4, 5, 6, 7, 8, 9, 10

## CONN_DG35C_02
designator J?, comment DG35C_02  (value not drawn)
Terminal Block Barrier, Pitch 8.25mm, H 15.1mm; MANF: DEGSON; MANF_P#: DG35C-B-02P, KF35C-8.25-2P; PARAM2: 300v, -40~105°C; PARAM: 20A; VALUE: DG35C_02; Mount Type: THT; Type: Conn.
footprint DG35C_02 (Terminal Block Screw, Pitch 8.25mm, 20A/300v, DG35C= KF35C)
pins: 1, 2

## CONN_DG35C_03
designator J?, comment DG35C_03  (value not drawn)
Terminal Block Barrier, Pitch 8.25mm, H 15.1mm; MANF: DEGSON; MANF_P#: DG35C-B-03P, KF35C-8.25-3P; PARAM2: 300v, -40~105°C; PARAM: 20A; VALUE: DG35C_03; Mount Type: THT; Type: Conn.
footprint DG35C_03 (Terminal Block Screw, Pitch 8.25mm, 20A/300v, DG35C= KF35C)
pins: 1, 2, 3

## CONN_DG35C_04
designator J?, comment DG35C_04  (value not drawn)
Terminal Block Barrier, Pitch 8.25mm, H 15.1mm; MANF: DEGSON; MANF_P#: DG35C-B-04P, KF35C-8.25-4P; PARAM2: 300v, -40~105°C; PARAM: 20A; VALUE: DG35C_04; Mount Type: THT; Type: Conn.
footprint DG35C_04 (Terminal Block Screw, Pitch 8.25mm, 20A/300v, DG35C= KF35C)
pins: 1, 2, 3, 4

## CONN_DG35C_05
designator J?, comment DG35C_05  (value not drawn)
Terminal Block Barrier, Pitch 8.25mm, H 15.1mm; MANF: DEGSON; MANF_P#: DG35C-B-05P, KF35C-8.25-5P; PARAM2: 300v, -40~105°C; PARAM: 20A; VALUE: DG35C_05; Mount Type: THT; Type: Conn.
footprint DG35C_05 (Terminal Block Screw, Pitch 8.25mm, 20A/300v, DG35C= KF35C)
pins: 1, 2, 3, 4, 5

## CONN_DG35C_06
designator J?, comment DG35C_06  (value not drawn)
Terminal Block Barrier, Pitch 8.25mm, H 15.1mm; MANF: DEGSON; MANF_P#: DG35C-B-06P, KF35C-8.25-6P; PARAM2: 300v, -40~105°C; PARAM: 20A; VALUE: DG35C_06; Mount Type: THT; Type: Conn.
footprint DG35C_06 (Terminal Block Screw, Pitch 8.25mm, 20A/300v, DG35C= KF35C)
pins: 1, 2, 3, 4, 5, 6

## CONN_DG35C_07
designator J?, comment DG35C_07  (value not drawn)
Terminal Block Barrier, Pitch 8.25mm, H 15.1mm; MANF: DEGSON; MANF_P#: DG35C-B-07P, KF35C-8.25-7P; PARAM2: 300v, -40~105°C; PARAM: 20A; VALUE: DG35C_07; Mount Type: THT; Type: Conn.
footprint DG35C_07 (Terminal Block Screw, Pitch 8.25mm, 20A/300v, DG35C= KF35C)
pins: 1, 2, 3, 4, 5, 6, 7

## CONN_DG35C_08
designator J?, comment DG35C_08  (value not drawn)
Terminal Block Barrier, Pitch 8.25mm, H 15.1mm; MANF: DEGSON; MANF_P#: DG35C-B-08P, KF35C-8.25-8P; PARAM2: 300v, -40~105°C; PARAM: 20A; VALUE: DG35C_08; Mount Type: THT; Type: Conn.
footprint DG35C_08 (Terminal Block Screw, Pitch 8.25mm, 20A/300v, DG35C= KF35C)
pins: 1, 2, 3, 4, 5, 6, 7, 8

## CONN_DG35C_09
designator J?, comment DG35C_09  (value not drawn)
Terminal Block Barrier, Pitch 8.25mm, H 15.1mm; MANF: DEGSON; MANF_P#: DG35C-B-09P, KF35C-8.25-9P; PARAM2: 300v, -40~105°C; PARAM: 20A; VALUE: DG35C_09; Mount Type: THT; Type: Conn.
footprint DG35C_09 (Terminal Block Screw, Pitch 8.25mm, 20A/300v, DG35C= KF35C)
pins: 1, 2, 3, 4, 5, 6, 7, 8, 9

## CONN_DG35C_10
designator J?, comment DG35C_10  (value not drawn)
Terminal Block Barrier, Pitch 8.25mm, H 15.1mm; MANF: DEGSON; MANF_P#: DG35C-B-10P, KF35C-8.25-10P; PARAM2: 300v, -40~105°C; PARAM: 20A; VALUE: DG35C_10; Mount Type: THT; Type: Conn.
footprint DG35C_10 (Terminal Block Screw, Pitch 8.25mm, 20A/300v, DG35C= KF35C)
pins: 1, 2, 3, 4, 5, 6, 7, 8, 9, 10

## CONN_DG45CB_02
designator J?, comment DG45CB_02  (value not drawn)
Terminal Block Barrier, Pitch 9.5mm, H 18.4mm; MANF: DEGSON; MANF_P#: DG45C-B-02P, KF45C-9.5-2P; PARAM2: 300v, -40~105°C; PARAM: 25A; VALUE: DG45CB_02; Mount Type: THT; Type: Conn.
footprint DG45CB_02 (Terminal Block Screw, Pitch 9.5mm, 20A/300v)
footprint DG45CB_02_WS (Terminal Block Screw, Pitch 9.5mm, 20A/300v, with Spade)
pins: 1, 2

## CONN_DG45CB_03
designator J?, comment DG45CB_03  (value not drawn)
Terminal Block Barrier, Pitch 9.5mm, H 18.4mm; MANF: DEGSON; MANF_P#: DG45C-B-03P, KF45C-9.5-3P; PARAM2: 300v, -40~105°C; PARAM: 25A; VALUE: DG45CB_03; Mount Type: THT; Type: Conn.
footprint DG45CB_03 (Terminal Block Screw, Pitch 9.5mm, 20A/300v)
footprint DG45CB_03_WS (Terminal Block Screw, Pitch 9.5mm, 20A/300v, with Spade)
pins: 1, 2, 3

## CONN_DG45CB_04
designator J?, comment DG45CB_04  (value not drawn)
Terminal Block Barrier, Pitch 9.5mm, H 18.4mm; MANF: DEGSON; MANF_P#: DG45C-B-04P, KF45C-9.5-4P; PARAM2: 300v, -40~105°C; PARAM: 25A; VALUE: DG45CB_04; Mount Type: THT; Type: Conn.
footprint DG45CB_04 (Terminal Block Screw, Pitch 9.5mm, 20A/300v)
footprint DG45CB_04_WS (Terminal Block Screw, Pitch 9.5mm, 20A/300v, with Spade)
pins: 1, 2, 3, 4

## CONN_DG45CB_05
designator J?, comment DG45CB_05  (value not drawn)
Terminal Block Barrier, Pitch 9.5mm, H 18.4mm; MANF: DEGSON; MANF_P#: DG45C-B-05P, KF45C-9.5-5P; PARAM2: 300v, -40~105°C; PARAM: 25A; VALUE: DG45CB_05; Mount Type: THT; Type: Conn.
footprint DG45CB_05 (Terminal Block Screw, Pitch 9.5mm, 20A/300v)
footprint DG45CB_05_WS (Terminal Block Screw, Pitch 9.5mm, 20A/300v, with Spade)
pins: 1, 2, 3, 4, 5

## CONN_DG45CB_06
designator J?, comment DG45CB_06  (value not drawn)
Terminal Block Barrier, Pitch 9.5mm, H 18.4mm; MANF: DEGSON; MANF_P#: DG45C-B-06P, KF45C-9.5-6P; PARAM2: 300v, -40~105°C; PARAM: 25A; VALUE: DG45CB_06; Mount Type: THT; Type: Conn.
footprint DG45CB_06 (Terminal Block Screw, Pitch 9.5mm, 20A/300v)
footprint DG45CB_06_WS (Terminal Block Screw, Pitch 9.5mm, 20A/300v, with Spade)
pins: 1, 2, 3, 4, 5, 6

## CONN_DG45CB_07
designator J?, comment DG45CB_07  (value not drawn)
Terminal Block Barrier, Pitch 9.5mm, H 18.4mm; MANF: DEGSON; MANF_P#: DG45C-B-07P, KF45C-9.5-7P; PARAM2: 300v, -40~105°C; PARAM: 25A; VALUE: DG45CB_07; Mount Type: THT; Type: Conn.
footprint DG45CB_07 (Terminal Block Screw, Pitch 9.5mm, 20A/300v)
footprint DG45CB_07_WS (Terminal Block Screw, Pitch 9.5mm, 20A/300v, with Spade)
pins: 1, 2, 3, 4, 5, 6, 7

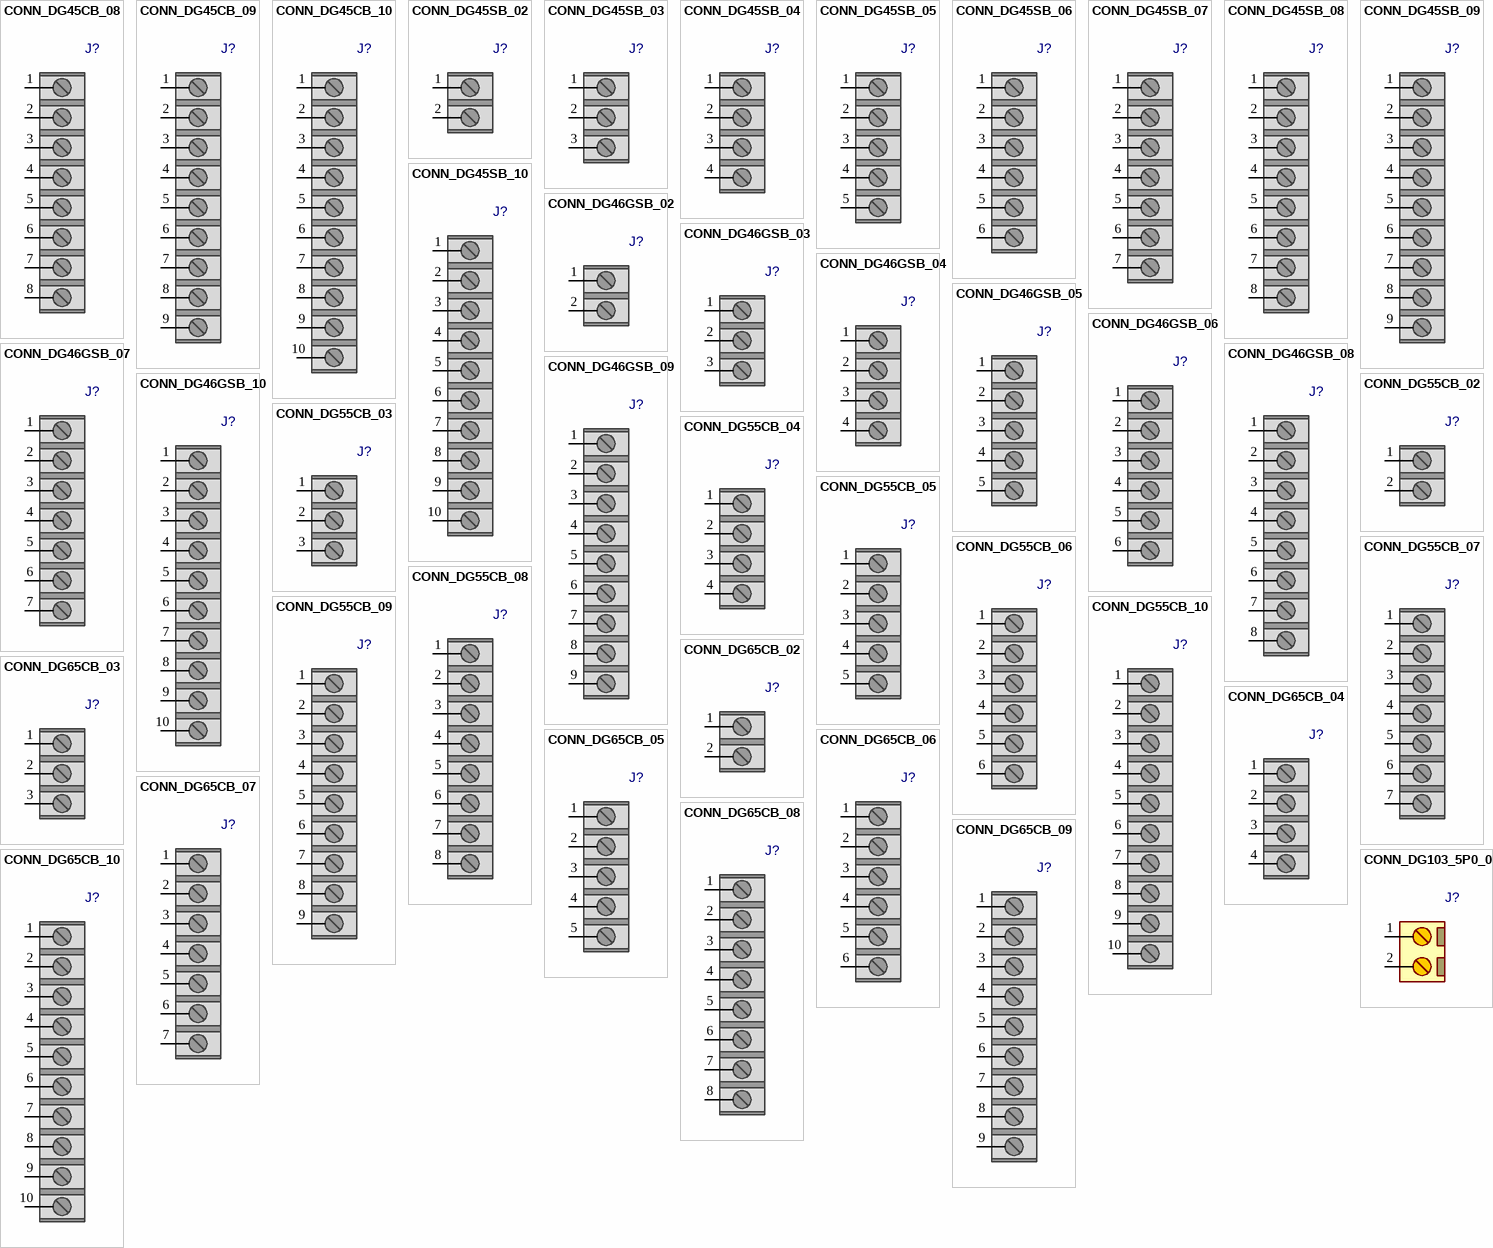
[diagram p2: symbols CONN_DG45CB_08 to CONN_DG103_5P0_02]

## CONN_DG45CB_08
designator J?, comment DG45CB_08  (value not drawn)
Terminal Block Barrier, Pitch 9.5mm, H 18.4mm; MANF: DEGSON; MANF_P#: DG45C-B-08P, KF45C-9.5-8P; PARAM2: 300v, -40~105°C; PARAM: 25A; VALUE: DG45CB_08; Mount Type: THT; Type: Conn.
footprint DG45CB_08 (Terminal Block Screw, Pitch 9.5mm, 20A/300v)
footprint DG45CB_08_WS (Terminal Block Screw, Pitch 9.5mm, 20A/300v, with Spade)
pins: 1, 2, 3, 4, 5, 6, 7, 8

## CONN_DG45CB_09
designator J?, comment DG45CB_09  (value not drawn)
Terminal Block Barrier, Pitch 9.5mm, H 18.4mm; MANF: DEGSON; MANF_P#: DG45C-B-09P, KF45C-9.5-9P; PARAM2: 300v, -40~105°C; PARAM: 25A; VALUE: DG45CB_09; Mount Type: THT; Type: Conn.
footprint DG45CB_09 (Terminal Block Screw, Pitch 9.5mm, 20A/300v)
footprint DG45CB_09_WS (Terminal Block Screw, Pitch 9.5mm, 20A/300v, with Spade)
pins: 1, 2, 3, 4, 5, 6, 7, 8, 9

## CONN_DG45CB_10
designator J?, comment DG45CB_10  (value not drawn)
Terminal Block Barrier, Pitch 9.5mm, H 18.4mm; MANF: DEGSON; MANF_P#: DG45C-B-10P, KF45C-9.5-10P; PARAM2: 300v, -40~105°C; PARAM: 25A; VALUE: DG45CB_10; Mount Type: THT; Type: Conn.
footprint DG45CB_10 (Terminal Block Screw, Pitch 9.5mm, 20A/300v)
footprint DG45CB_10_WS (Terminal Block Screw, Pitch 9.5mm, 20A/300v, with Spade)
pins: 1, 2, 3, 4, 5, 6, 7, 8, 9, 10

## CONN_DG45SB_02
designator J?, comment DG45SB_02  (value not drawn)
Terminal Block Barrier, Pitch 9.5mm, H 18.4mm, Sided pin; MANF: DEGSON; MANF_P#: DG45S-B-02P, KF45S-9.5-2P; PARAM2: 300v, -40~105°C; PARAM: 25A; VALUE: DG45SB_02; Mount Type: THT; Type: Conn.
footprint DG45SB_02 (Terminal Block Screw, Pitch 9.5mm, 20A/300v)
pins: 1, 2

## CONN_DG45SB_03
designator J?, comment DG45SB_03  (value not drawn)
Terminal Block Barrier, Pitch 9.5mm, H 18.4mm, Sided pin; MANF: DEGSON; MANF_P#: DG45S-B-03P, KF45S-9.5-3P; PARAM2: 300v, -40~105°C; PARAM: 25A; VALUE: DG45SB_03; Mount Type: THT; Type: Conn.
footprint DG45SB_03 (Terminal Block Screw, Pitch 9.5mm, 20A/300v)
pins: 1, 2, 3

## CONN_DG45SB_04
designator J?, comment DG45SB_04  (value not drawn)
Terminal Block Barrier, Pitch 9.5mm, H 18.4mm, Sided pin; MANF: DEGSON; MANF_P#: DG45S-B-04P, KF45S-9.5-4P; PARAM2: 300v, -40~105°C; PARAM: 25A; VALUE: DG45SB_04; Mount Type: THT; Type: Conn.
footprint DG45SB_04 (Terminal Block Screw, Pitch 9.5mm, 20A/300v)
pins: 1, 2, 3, 4

## CONN_DG45SB_05
designator J?, comment DG45SB_05  (value not drawn)
Terminal Block Barrier, Pitch 9.5mm, H 18.4mm, Sided pin; MANF: DEGSON; MANF_P#: DG45S-B-05P, KF45S-9.5-5P; PARAM2: 300v, -40~105°C; PARAM: 25A; VALUE: DG45SB_05; Mount Type: THT; Type: Conn.
footprint DG45SB_05 (Terminal Block Screw, Pitch 9.5mm, 20A/300v)
pins: 1, 2, 3, 4, 5

## CONN_DG45SB_06
designator J?, comment DG45SB_06  (value not drawn)
Terminal Block Barrier, Pitch 9.5mm, H 18.4mm, Sided pin; MANF: DEGSON; MANF_P#: DG45S-B-06P, KF45S-9.5-6P; PARAM2: 300v, -40~105°C; PARAM: 25A; VALUE: DG45SB_06; Mount Type: THT; Type: Conn.
footprint DG45SB_06 (Terminal Block Screw, Pitch 9.5mm, 20A/300v)
pins: 1, 2, 3, 4, 5, 6

## CONN_DG45SB_07
designator J?, comment DG45SB_07  (value not drawn)
Terminal Block Barrier, Pitch 9.5mm, H 18.4mm, Sided pin; MANF: DEGSON; MANF_P#: DG45S-B-07P, KF45S-9.5-7P; PARAM2: 300v, -40~105°C; PARAM: 25A; VALUE: DG45SB_07; Mount Type: THT; Type: Conn.
footprint DG45SB_07 (Terminal Block Screw, Pitch 9.5mm, 20A/300v)
pins: 1, 2, 3, 4, 5, 6, 7

## CONN_DG45SB_08
designator J?, comment DG45SB_08  (value not drawn)
Terminal Block Barrier, Pitch 9.5mm, H 18.4mm, Sided pin; MANF: DEGSON; MANF_P#: DG45S-B-08P, KF45S-9.5-8P; PARAM2: 300v, -40~105°C; PARAM: 25A; VALUE: DG45SB_08; Mount Type: THT; Type: Conn.
footprint DG45SB_08 (Terminal Block Screw, Pitch 9.5mm, 20A/300v)
pins: 1, 2, 3, 4, 5, 6, 7, 8

## CONN_DG45SB_09
designator J?, comment DG45SB_09  (value not drawn)
Terminal Block Barrier, Pitch 9.5mm, H 18.4mm, Sided pin; MANF: DEGSON; MANF_P#: DG45S-B-09P, KF45S-9.5-9P; PARAM2: 300v, -40~105°C; PARAM: 25A; VALUE: DG45SB_09; Mount Type: THT; Type: Conn.
footprint DG45SB_09 (Terminal Block Screw, Pitch 9.5mm, 20A/300v)
pins: 1, 2, 3, 4, 5, 6, 7, 8, 9

## CONN_DG45SB_10
designator J?, comment DG45SB_10  (value not drawn)
Terminal Block Barrier, Pitch 9.5mm, H 18.4mm, Sided pin; MANF: DEGSON; MANF_P#: DG45S-B-10P, KF45S-9.5-10P; PARAM2: 300v, -40~105°C; PARAM: 25A; VALUE: DG45SB_10; Mount Type: THT; Type: Conn.
footprint DG45SB_10 (Terminal Block Screw, Pitch 9.5mm, 20A/300v)
pins: 1, 2, 3, 4, 5, 6, 7, 8, 9, 10

## CONN_DG46GSB_02
designator J?, comment DG46GSB_02  (value not drawn)
Terminal Block Barrier, Pitch 9.5mm, H 17mm, with Cover; MANF: DEGSON; MANF_P#: DG46GS-B-02P, HB9500SS-9.5-2P, DBT50G-9.5-2P; PARAM2: 300v, -40~105°C; PARAM: 20A; VALUE: DG46GSB_02; Mount Type: THT; Type: Conn.
footprint DG46GSB_02 (Terminal Block Screw, Pitch 9.5mm, 20A/300v, DG46GS-B,)
pins: 1, 2

## CONN_DG46GSB_03
designator J?, comment DG46GSB_03  (value not drawn)
Terminal Block Barrier, Pitch 9.5mm, H 17mm, with Cover; MANF: DEGSON; MANF_P#: DG46GS-B-03P, HB9500SS-9.5-3P, DBT50G-9.5-3P; PARAM2: 300v, -40~105°C; PARAM: 20A; VALUE: DG46GSB_03; Mount Type: THT; Type: Conn.
footprint DG46GSB_03 (Terminal Block Screw, Pitch 9.5mm, 20A/300v, DG46GS-B,)
pins: 1, 2, 3

## CONN_DG46GSB_04
designator J?, comment DG46GSB_04  (value not drawn)
Terminal Block Barrier, Pitch 9.5mm, H 17mm, with Cover; MANF: DEGSON; MANF_P#: DG46GS-B-04P, HB9500SS-9.5-4P, DBT50G-9.5-4P; PARAM2: 300v, -40~105°C; PARAM: 20A; VALUE: DG46GSB_04; Mount Type: THT; Type: Conn.
footprint DG46GSB_04 (Terminal Block Screw, Pitch 9.5mm, 20A/300v, DG46GS-B,)
pins: 1, 2, 3, 4

## CONN_DG46GSB_05
designator J?, comment DG46GSB_05  (value not drawn)
Terminal Block Barrier, Pitch 9.5mm, H 17mm, with Cover; MANF: DEGSON; MANF_P#: DG46GS-B-05P, HB9500SS-9.5-5P, DBT50G-9.5-5P; PARAM2: 300v, -40~105°C; PARAM: 20A; VALUE: DG46GSB_05; Mount Type: THT; Type: Conn.
footprint DG46GSB_05 (Terminal Block Screw, Pitch 9.5mm, 20A/300v, DG46GS-B,)
pins: 1, 2, 3, 4, 5

## CONN_DG46GSB_06
designator J?, comment DG46GSB_06  (value not drawn)
Terminal Block Barrier, Pitch 9.5mm, H 17mm, with Cover; MANF: DEGSON; MANF_P#: DG46GS-B-06P, HB9500SS-9.5-6P, DBT50G-9.5-6P; PARAM2: 300v, -40~105°C; PARAM: 20A; VALUE: DG46GSB_06; Mount Type: THT; Type: Conn.
footprint DG46GSB_06 (Terminal Block Screw, Pitch 9.5mm, 20A/300v, DG46GS-B,)
pins: 1, 2, 3, 4, 5, 6

## CONN_DG46GSB_07
designator J?, comment DG46GSB_07  (value not drawn)
Terminal Block Barrier, Pitch 9.5mm, H 17mm, with Cover; MANF: DEGSON; MANF_P#: DG46GS-B-07P, HB9500SS-9.5-7P, DBT50G-9.5-7P; PARAM2: 300v, -40~105°C; PARAM: 20A; VALUE: DG46GSB_07; Mount Type: THT; Type: Conn.
footprint DG46GSB_07 (Terminal Block Screw, Pitch 9.5mm, 20A/300v, DG46GS-B,)
pins: 1, 2, 3, 4, 5, 6, 7

## CONN_DG46GSB_08
designator J?, comment DG46GSB_08  (value not drawn)
Terminal Block Barrier, Pitch 9.5mm, H 17mm, with Cover; MANF: DEGSON; MANF_P#: DG46GS-B-08P, HB9500SS-9.5-8P, DBT50G-9.5-8P; PARAM2: 300v, -40~105°C; PARAM: 20A; VALUE: DG46GSB_08; Mount Type: THT; Type: Conn.
footprint DG46GSB_08 (Terminal Block Screw, Pitch 9.5mm, 20A/300v, DG46GS-B,)
pins: 1, 2, 3, 4, 5, 6, 7, 8

## CONN_DG46GSB_09
designator J?, comment DG46GSB_09  (value not drawn)
Terminal Block Barrier, Pitch 9.5mm, H 17mm, with Cover; MANF: DEGSON; MANF_P#: DG46GS-B-09P, HB9500SS-9.5-9P, DBT50G-9.5-9P; PARAM2: 300v, -40~105°C; PARAM: 20A; VALUE: DG46GSB_09; Mount Type: THT; Type: Conn.
footprint DG46GSB_09 (Terminal Block Screw, Pitch 9.5mm, 20A/300v, DG46GS-B,)
pins: 1, 2, 3, 4, 5, 6, 7, 8, 9

## CONN_DG46GSB_10
designator J?, comment DG46GSB_10  (value not drawn)
Terminal Block Barrier, Pitch 9.5mm, H 17mm, with Cover; MANF: DEGSON; MANF_P#: DG46GS-B-10P, HB9500SS-9.5-10P, DBT50G-9.5-10P; PARAM2: 300v, -40~105°C; PARAM: 20A; VALUE: DG46GSB_10; Mount Type: THT; Type: Conn.
footprint DG46GSB_10 (Terminal Block Screw, Pitch 9.5mm, 20A/300v, DG46GS-B,)
pins: 1, 2, 3, 4, 5, 6, 7, 8, 9, 10

## CONN_DG55CB_02
designator J?, comment DG55CB_02  (value not drawn)
Terminal Block Barrier, Pitch 10mm, H 18.4mm; MANF: DEGSON; MANF_P#: DG55C-B-02P, KF55C-10.0-2P; PARAM2: 300v, -40~105°C; PARAM: 20A; VALUE: DG55CB_02; Mount Type: THT; Type: Conn.
footprint DG55CB_02 (Terminal Block Screw, Pitch 10mm, 20A/300v, DG55C-B= KF55)
pins: 1, 2

## CONN_DG55CB_03
designator J?, comment DG55CB_03  (value not drawn)
Terminal Block Barrier, Pitch 10mm, H 18.4mm; MANF: DEGSON; MANF_P#: DG55C-B-03P, KF55C-10.0-3P; PARAM2: 300v, -40~105°C; PARAM: 20A; VALUE: DG55CB_03; Mount Type: THT; Type: Conn.
footprint DG55CB_03 (Terminal Block Screw, Pitch 10mm, 20A/300v, DG55C-B= KF55)
pins: 1, 2, 3

## CONN_DG55CB_04
designator J?, comment DG55CB_04  (value not drawn)
Terminal Block Barrier, Pitch 10mm, H 18.4mm; MANF: DEGSON; MANF_P#: DG55C-B-04P, KF55C-10.0-4P; PARAM2: 300v, -40~105°C; PARAM: 20A; VALUE: DG55CB_04; Mount Type: THT; Type: Conn.
footprint DG55CB_04 (Terminal Block Screw, Pitch 10mm, 20A/300v, DG55C-B= KF55)
pins: 1, 2, 3, 4

## CONN_DG55CB_05
designator J?, comment DG55CB_05  (value not drawn)
Terminal Block Barrier, Pitch 10mm, H 18.4mm; MANF: DEGSON; MANF_P#: DG55C-B-05P, KF55C-10.0-5P; PARAM2: 300v, -40~105°C; PARAM: 20A; VALUE: DG55CB_05; Mount Type: THT; Type: Conn.
footprint DG55CB_05 (Terminal Block Screw, Pitch 10mm, 20A/300v, DG55C-B= KF55)
pins: 1, 2, 3, 4, 5

## CONN_DG55CB_06
designator J?, comment DG55CB_06  (value not drawn)
Terminal Block Barrier, Pitch 10mm, H 18.4mm; MANF: DEGSON; MANF_P#: DG55C-B-06P, KF55C-10.0-6P; PARAM2: 300v, -40~105°C; PARAM: 20A; VALUE: DG55CB_06; Mount Type: THT; Type: Conn.
footprint DG55CB_06 (Terminal Block Screw, Pitch 10mm, 20A/300v, DG55C-B= KF55)
pins: 1, 2, 3, 4, 5, 6

## CONN_DG55CB_07
designator J?, comment DG55CB_07  (value not drawn)
Terminal Block Barrier, Pitch 10mm, H 18.4mm; MANF: DEGSON; MANF_P#: DG55C-B-07P, KF55C-10.0-7P; PARAM2: 300v, -40~105°C; PARAM: 20A; VALUE: DG55CB_07; Mount Type: THT; Type: Conn.
footprint DG55CB_07 (Terminal Block Screw, Pitch 10mm, 20A/300v, DG55C-B= KF55)
pins: 1, 2, 3, 4, 5, 6, 7

## CONN_DG55CB_08
designator J?, comment DG55CB_08  (value not drawn)
Terminal Block Barrier, Pitch 10mm, H 18.4mm; MANF: DEGSON; MANF_P#: DG55C-B-08P, KF55C-10.0-8P; PARAM2: 300v, -40~105°C; PARAM: 20A; VALUE: DG55CB_08; Mount Type: THT; Type: Conn.
footprint DG55CB_08 (Terminal Block Screw, Pitch 10mm, 20A/300v, DG55C-B= KF55)
pins: 1, 2, 3, 4, 5, 6, 7, 8

## CONN_DG55CB_09
designator J?, comment DG55CB_09  (value not drawn)
Terminal Block Barrier, Pitch 10mm, H 18.4mm; MANF: DEGSON; MANF_P#: DG55C-B-09P, KF55C-10.0-9P; PARAM2: 300v, -40~105°C; PARAM: 20A; VALUE: DG55CB_09; Mount Type: THT; Type: Conn.
footprint DG55CB_09 (Terminal Block Screw, Pitch 10mm, 20A/300v, DG55C-B= KF55)
pins: 1, 2, 3, 4, 5, 6, 7, 8, 9

## CONN_DG55CB_10
designator J?, comment DG55CB_10  (value not drawn)
Terminal Block Barrier, Pitch 10mm, H 18.4mm; MANF: DEGSON; MANF_P#: DG55C-B-10P, KF55C-10.0-10P; PARAM2: 300v, -40~105°C; PARAM: 20A; VALUE: DG55CB_10; Mount Type: THT; Type: Conn.
footprint DG55CB_10 (Terminal Block Screw, Pitch 10mm, 20A/300v, DG55C-B= KF55)
pins: 1, 2, 3, 4, 5, 6, 7, 8, 9, 10

## CONN_DG65CB_02
designator J?, comment DG65CB_02  (value not drawn)
Terminal Block Barrier, Pitch 11mm, H 18mm; MANF: DEGSON; MANF_P#: DG65C-B-02P, KF65C-11.0-2P; PARAM2: 300v, -40~105°C; PARAM: 30A; VALUE: DG65CB_02; Mount Type: THT; Type: Conn.
footprint DG65CB_02 (Terminal Block Screw, Pitch 11mm, 20A/300v, DG65C-B= KF65)
pins: 1, 2

## CONN_DG65CB_03
designator J?, comment DG65CB_03  (value not drawn)
Terminal Block Barrier, Pitch 11mm, H 18mm; MANF: DEGSON; MANF_P#: DG65C-B-03P, KF65C-11.0-3P; PARAM2: 300v, -40~105°C; PARAM: 30A; VALUE: DG65CB_03; Mount Type: THT; Type: Conn.
footprint DG65CB_03 (Terminal Block Screw, Pitch 11mm, 20A/300v, DG65C-B= KF65)
pins: 1, 2, 3

## CONN_DG65CB_04
designator J?, comment DG65CB_04  (value not drawn)
Terminal Block Barrier, Pitch 11mm, H 18mm; MANF: DEGSON; MANF_P#: DG65C-B-04P, KF65C-11.0-4P; PARAM2: 300v, -40~105°C; PARAM: 30A; VALUE: DG65CB_04; Mount Type: THT; Type: Conn.
footprint DG65CB_04 (Terminal Block Screw, Pitch 11mm, 20A/300v, DG65C-B= KF65)
pins: 1, 2, 3, 4

## CONN_DG65CB_05
designator J?, comment DG65CB_05  (value not drawn)
Terminal Block Barrier, Pitch 11mm, H 18mm; MANF: DEGSON; MANF_P#: DG65C-B-05P, KF65C-11.0-5P; PARAM2: 300v, -40~105°C; PARAM: 30A; VALUE: DG65CB_05; Mount Type: THT; Type: Conn.
footprint DG65CB_05 (Terminal Block Screw, Pitch 11mm, 20A/300v, DG65C-B= KF65)
pins: 1, 2, 3, 4, 5

## CONN_DG65CB_06
designator J?, comment DG65CB_06  (value not drawn)
Terminal Block Barrier, Pitch 11mm, H 18mm; MANF: DEGSON; MANF_P#: DG65C-B-06P, KF65C-11.0-6P; PARAM2: 300v, -40~105°C; PARAM: 30A; VALUE: DG65CB_06; Mount Type: THT; Type: Conn.
footprint DG65CB_06 (Terminal Block Screw, Pitch 11mm, 20A/300v, DG65C-B= KF65)
pins: 1, 2, 3, 4, 5, 6

## CONN_DG65CB_07
designator J?, comment DG65CB_07  (value not drawn)
Terminal Block Barrier, Pitch 11mm, H 18mm; MANF: DEGSON; MANF_P#: DG65C-B-07P, KF65C-11.0-7P; PARAM2: 300v, -40~105°C; PARAM: 30A; VALUE: DG65CB_07; Mount Type: THT; Type: Conn.
footprint DG65CB_07 (Terminal Block Screw, Pitch 11mm, 20A/300v, DG65C-B= KF65)
pins: 1, 2, 3, 4, 5, 6, 7

## CONN_DG65CB_08
designator J?, comment DG65CB_08  (value not drawn)
Terminal Block Barrier, Pitch 11mm, H 18mm; MANF: DEGSON; MANF_P#: DG65C-B-08P, KF65C-11.0-8P; PARAM2: 300v, -40~105°C; PARAM: 30A; VALUE: DG65CB_08; Mount Type: THT; Type: Conn.
footprint DG65CB_08 (Terminal Block Screw, Pitch 11mm, 20A/300v, DG65C-B= KF65)
pins: 1, 2, 3, 4, 5, 6, 7, 8

## CONN_DG65CB_09
designator J?, comment DG65CB_09  (value not drawn)
Terminal Block Barrier, Pitch 11mm, H 18mm; MANF: DEGSON; MANF_P#: DG65C-B-09P, KF65C-11.0-9P; PARAM2: 300v, -40~105°C; PARAM: 30A; VALUE: DG65CB_09; Mount Type: THT; Type: Conn.
footprint DG65CB_09 (Terminal Block Screw, Pitch 11mm, 20A/300v, DG65C-B= KF65)
pins: 1, 2, 3, 4, 5, 6, 7, 8, 9

## CONN_DG65CB_10
designator J?, comment DG65CB_10  (value not drawn)
Terminal Block Barrier, Pitch 11mm, H 18mm; MANF: DEGSON; MANF_P#: DG65C-B-10P, KF65C-11.0-10P; PARAM2: 300v, -40~105°C; PARAM: 30A; VALUE: DG65CB_10; Mount Type: THT; Type: Conn.
footprint DG65CB_10 (Terminal Block Screw, Pitch 11mm, 20A/300v, DG65C-B= KF65)
pins: 1, 2, 3, 4, 5, 6, 7, 8, 9, 10

## CONN_DG103_5P0_02
designator J?, comment DG103_5P0_02  (value not drawn)
Terminal Block Screw, Pitch 5mm, 45°, H 13.8mm; MANF: DEGSON; MANF_P#: DG103-5.0-02P; PARAM2: 250v, -40~105°C; PARAM: 20A; VALUE: DG103_5P0_02; Mount Type: THT; Type: Conn.
footprint DG103_5P0_02 (Terminal Block 45° Screw, Pitch 5mm, L15mm)
pins: 1, 2

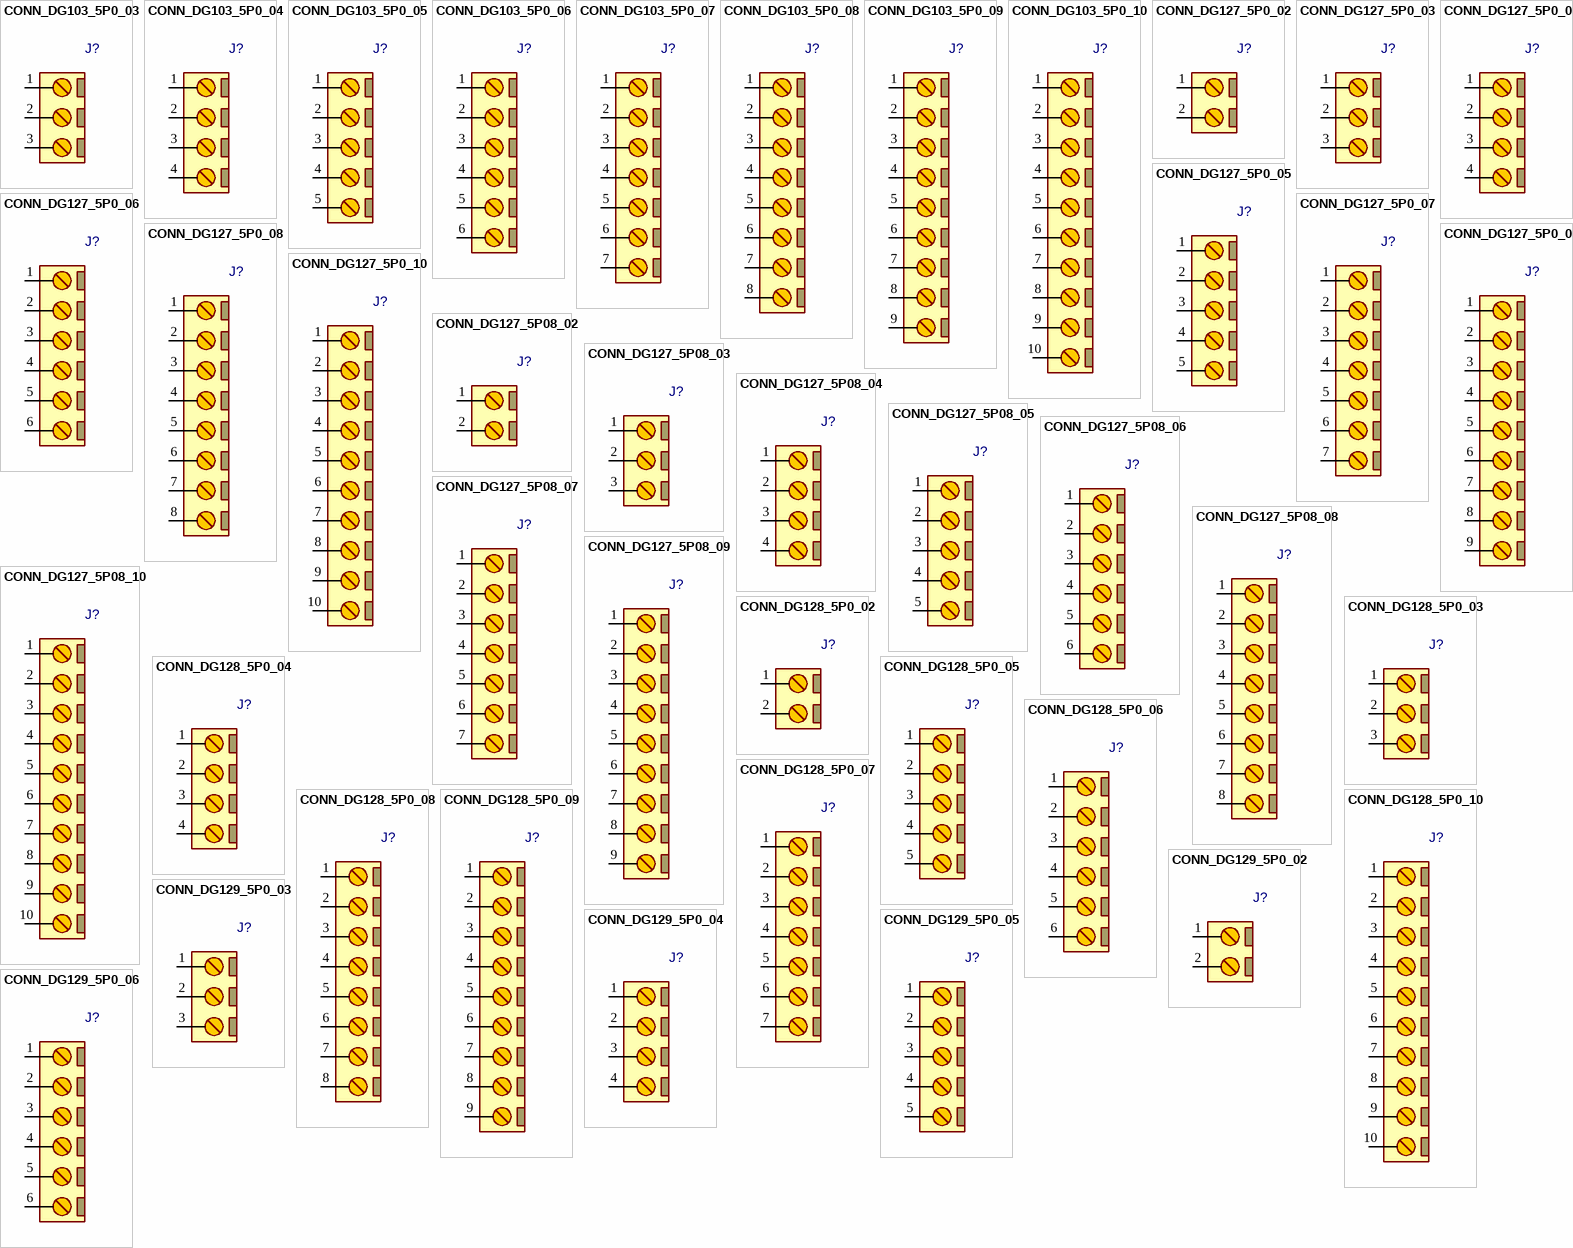
[diagram p3: symbols CONN_DG103_5P0_03 to CONN_DG129_5P0_06]

## CONN_DG103_5P0_03
designator J?, comment DG103_5P0_03  (value not drawn)
Terminal Block Screw, Pitch 5mm, 45°, H 13.8mm; MANF: DEGSON; MANF_P#: DG103-5.0-03P; PARAM2: 250v, -40~105°C; PARAM: 20A; VALUE: DG103_5P0_03; Mount Type: THT; Type: Conn.
footprint DG103_5P0_03 (Terminal Block 45° Screw, Pitch 5mm, L15mm)
pins: 1, 2, 3

## CONN_DG103_5P0_04
designator J?, comment DG103_5P0_04  (value not drawn)
Terminal Block Screw, Pitch 5mm, 45°, H 13.8mm; MANF: DEGSON; MANF_P#: DG103-5.0-04P; PARAM2: 250v, -40~105°C; PARAM: 20A; VALUE: DG103_5P0_04; Mount Type: THT; Type: Conn.
footprint DG103_5P0_04 (Terminal Block 45° Screw, Pitch 5mm, L15mm)
pins: 1, 2, 3, 4

## CONN_DG103_5P0_05
designator J?, comment DG103_5P0_05  (value not drawn)
Terminal Block Screw, Pitch 5mm, 45°, H 13.8mm; MANF: DEGSON; MANF_P#: DG103-5.0-05P; PARAM2: 250v, -40~105°C; PARAM: 20A; VALUE: DG103_5P0_05; Mount Type: THT; Type: Conn.
footprint DG103_5P0_05 (Terminal Block 45° Screw, Pitch 5mm, L15mm)
pins: 1, 2, 3, 4, 5

## CONN_DG103_5P0_06
designator J?, comment DG103_5P0_06  (value not drawn)
Terminal Block Screw, Pitch 5mm, 45°, H 13.8mm; MANF: DEGSON; MANF_P#: DG103-5.0-06P; PARAM2: 250v, -40~105°C; PARAM: 20A; VALUE: DG103_5P0_06; Mount Type: THT; Type: Conn.
footprint DG103_5P0_06 (Terminal Block 45° Screw, Pitch 5mm, L15mm)
pins: 1, 2, 3, 4, 5, 6